# Altium schematic symbol library RF_Module.SchLib: 84 symbols (part 1 of 2)
Pins are listed as number, name and electrical type; pins without a type are passive.

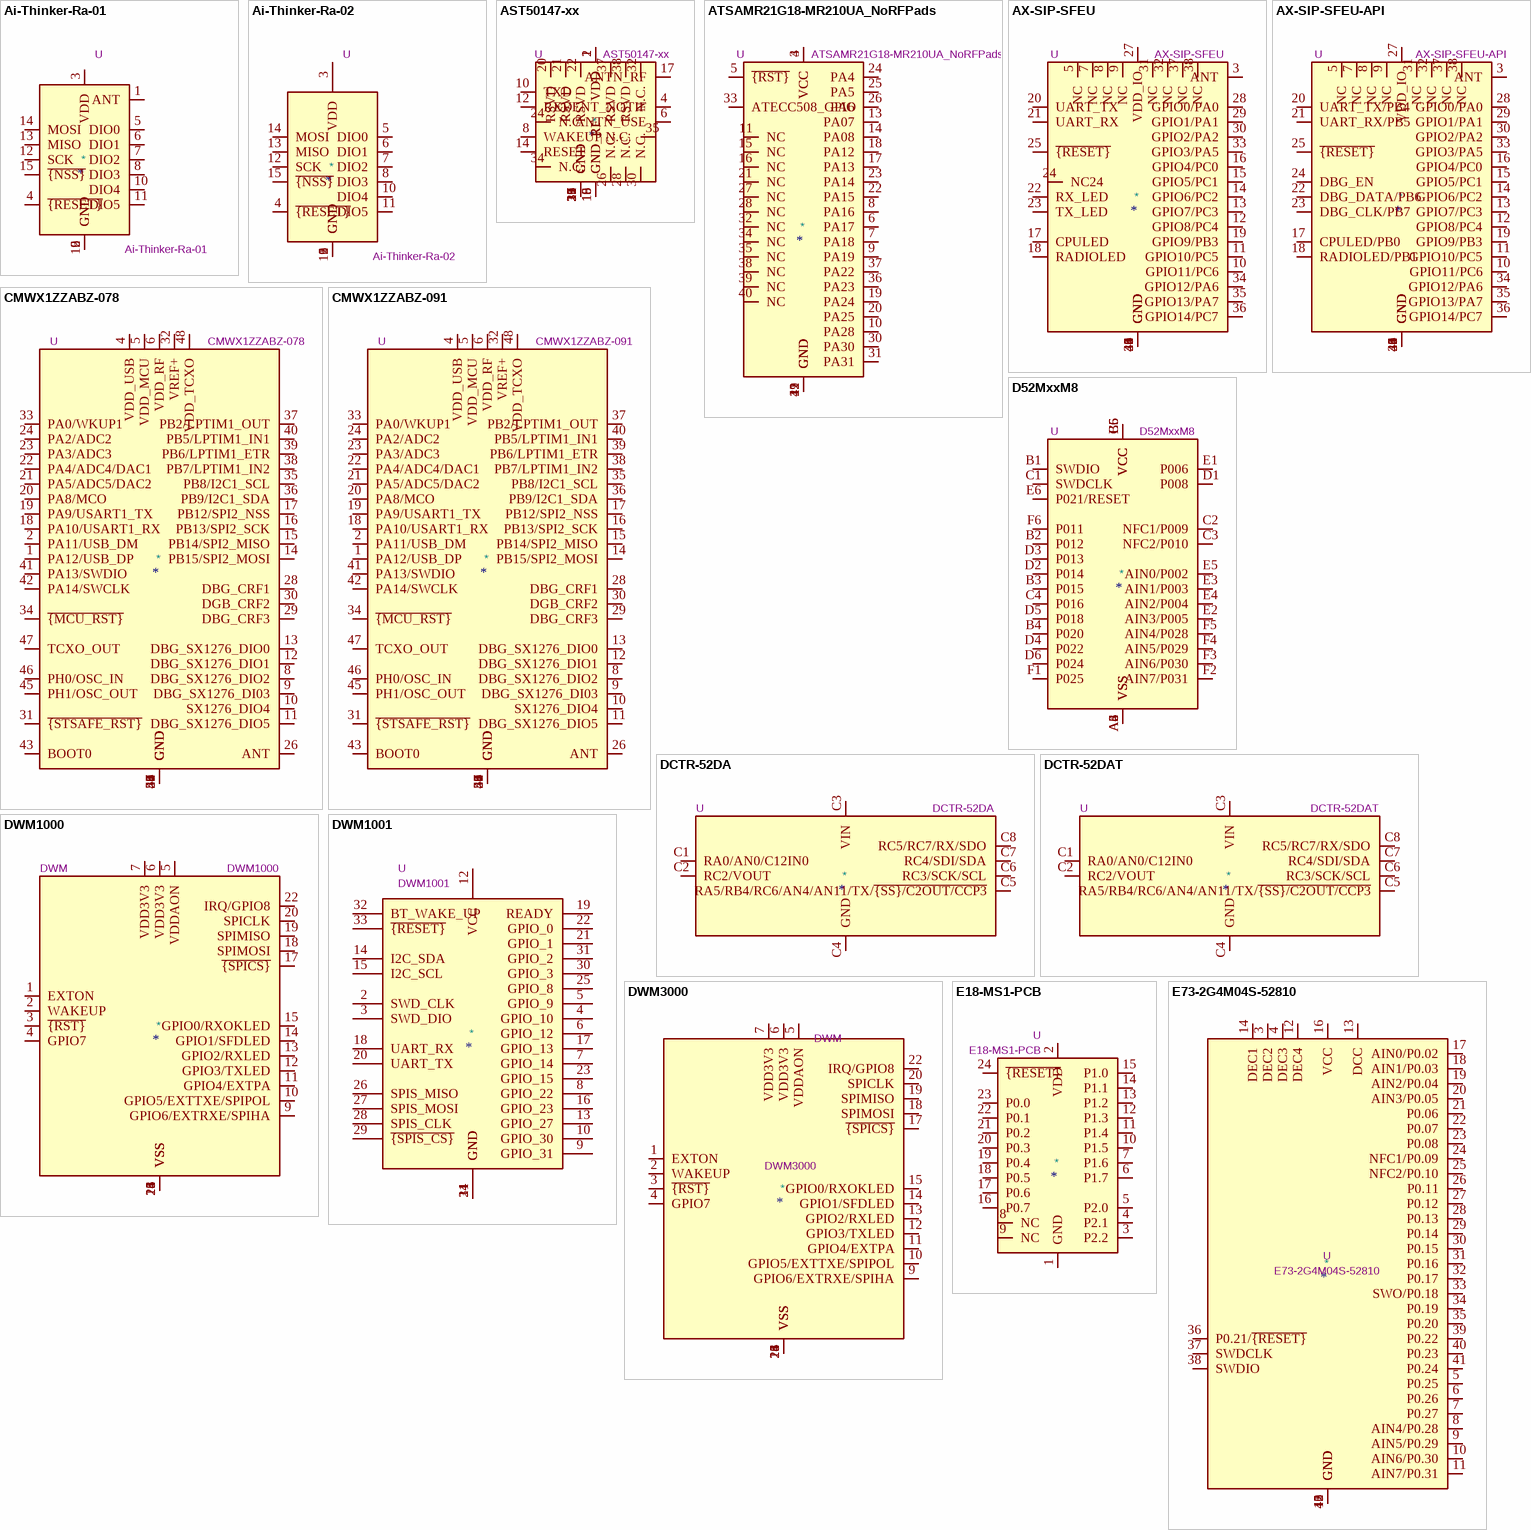
[diagram p0: symbols Ai-Thinker-Ra-01 to E73-2G4M04S-52810]

## Ai-Thinker-Ra-01
designator *  value Ai-Thinker-Ra-01  Reference: U
Ai-Thinker Ra-01 410-525 MHz LoRa Module, SPI interface, external antenna; ki_keywords: Ra-01 LoRa; ki_fp_filters: Ai?Thinker?Ra?01*; Footprint: RF_Module:Ai-Thinker-Ra-01-LoRa; Datasheet: http://wiki.ai-thinker.com/_media/lora/docs/c047ps01a1_ra-01_product_specification_v1.1.pdf; Description_: Ai-Thinker Ra-01 410-525 MHz LoRa Module, SPI interface, external antenna
pins: 1 ANT, 2 GND, 3 VDD, 4 ~{{RESET}}, 5 DIO0, 6 DIO1, 7 DIO2, 8 DIO3, 9 GND, 10 DIO4, 11 DIO5, 12 SCK, 13 MISO, 14 MOSI, 15 ~{{NSS}}, 16 GND

## Ai-Thinker-Ra-02
designator *  value Ai-Thinker-Ra-02  Reference: U
Ai-Thinker Ra-02 410-525 MHz LoRa Module, SPI interface, U.FL antenna connector; ki_keywords: Ra-02 LoRa; ki_fp_filters: Ai?Thinker?Ra?01*; Footprint: RF_Module:Ai-Thinker-Ra-01-LoRa; Datasheet: http://wiki.ai-thinker.com/_media/lora/docs/c048ps01a1_ra-02_product_specification_v1.1.pdf; Description_: Ai-Thinker Ra-02 410-525 MHz LoRa Module, SPI interface, U.FL antenna connector
pins: 1 GND, 2 GND, 3 VDD, 4 ~{{RESET}}, 5 DIO0, 6 DIO1, 7 DIO2, 8 DIO3, 9 GND, 10 DIO4, 11 DIO5, 12 SCK, 13 MISO, 14 MOSI, 15 ~{{NSS}}, 16 GND

## AST50147-xx
designator *  value AST50147-xx  Reference: U
L-band satellite communication Astronode S module; ki_keywords: RF module Astrocast radio Astronode; ki_fp_filters: Astrocast*AST50147*; Footprint: RF_Module:Astrocast_AST50147-00; Datasheet: https://docs.astrocast.com/dl/0532-DOC-M2M-ASTRO-Astronode_S-Datasheet.pdf; Description_: L-band satellite communication Astronode S module
pins: 1 VDD, 2 VDD, 3 GND, 4 EVENT_NOTIF, 5 GND, 6 ANTN_USE, 7 GND, 8 WAKEUP, 9 GND, 10 TXD, 11 GND, 12 RXD, 13 GND, 14 RESET, 15 GND_RF, 16 GND_RF, 17 ANTN_RF, 18 GND_RF, 19 GND_RF, 20 RSVD, 21 RSVD, 22 RSVD, 23 GND, 24 N.C., 25 GND, 26 N.C., 27 GND, 28 N.C., 29 GND, 30 N.C., 31 GND, 32 N.C., 33 GND, 34 N.C., 35 N.C., 36 GND, 37 RSVD, 38 RSVD

## ATSAMR21G18-MR210UA_NoRFPads
designator *  value ATSAMR21G18-MR210UA_NoRFPads  Reference: U
RF Module, ATSAMR21, Zigbee 802.15.4, external antenna, SMD; ki_keywords: Wireless Zigbee 802.15.4 ATSAMR21G18 AT45DB041E TECC508A; ki_fp_filters: Atmel*ATSAMR21G18*MR210UA*NoRFPads*; Footprint: RF_Module:Atmel_ATSAMR21G18-MR210UA_NoRFPads; Datasheet: http://ww1.microchip.com/downloads/en/devicedoc/atmel-42475-atsamr21g18-mr210ua_datasheet.pdf; Description_: RF Module, ATSAMR21, Zigbee 802.15.4, external antenna, SMD
pins: 1 GND, 2 GND, 3 VCC, 4 VCC, 5 ~{{RST}}, 6 PA17, 7 PA18, 8 PA16, 9 PA19, 10 PA28, 11 NC, 12 GND, 13 PA07, 14 PA08, 15 NC, 16 NC, 17 PA13, 18 PA12, 19 PA24, 20 PA25, 21 NC, 22 PA15, 23 PA14, 24 PA4, 25 PA5, 26 PA6, 27 NC, 28 NC, 29 GND, 30 PA30, 31 PA31, 32 NC, 33 ATECC508_GPIO, 34 NC, 35 NC, 36 PA23, 37 PA22, 38 NC, 39 NC, 40 NC, 41 GND, 42 GND

## AX-SIP-SFEU
designator *  value AX-SIP-SFEU  Reference: U
Ultra low power, Sigfox or custom, system in package transceiver, 868Mhz; ki_keywords: Sigfox SIP 868Mhz; ki_fp_filters: OnSemi*SIP*6EP*9x7mm*P0.65mm*; Footprint: Package_DFN_QFN:OnSemi_SIP-38-6EP-9x7mm_P0.65mm_EP1.2x1.2mm; Datasheet: https://www.onsemi.com/pub/Collateral/AX-SIP-SFEU-D.PDF; Description_: Ultra low power, Sigfox or custom, system in package transceiver, 868Mhz
pins: 1 GND, 2 GND, 3 ANT, 4 GND, 5 NC, 6 GND, 7 NC, 8 NC, 9 NC, 10 GPIO11/PC6, 11 GPIO10/PC5, 12 GPIO8/PC4, 13 GPIO7/PC3, 14 GPIO6/PC2, 15 GPIO5/PC1, 16 GPIO4/PC0, 17 CPULED, 18 RADIOLED, 19 GPIO9/PB3, 20 UART_TX, 21 UART_RX, 22 RX_LED, 23 TX_LED, 24 NC24, 25 ~{{RESET}}, 26 GND, 27 VDD_IO, 28 GPIO0/PA0, 29 GPIO1/PA1, 30 GPIO2/PA2, 31 NC, 32 NC, 33 GPIO3/PA5, 34 GPIO12/PA6, 35 GPIO13/PA7, 36 GPIO14/PC7, 37 NC, 38 NC, 39 GND, 40 GND, 41 GND, 42 GND, 43 GND, 44 GND

## AX-SIP-SFEU-API
designator *  value AX-SIP-SFEU-API  Reference: U
Ultra low power, Sigfox or custom, programmable system in package, 868Mhz; ki_keywords: Sigfox SIP 868Mhz; ki_fp_filters: OnSemi*SIP*6EP*9x7mm*P0.65mm*; Footprint: Package_DFN_QFN:OnSemi_SIP-38-6EP-9x7mm_P0.65mm_EP1.2x1.2mm; Datasheet: https://www.onsemi.com/pub/Collateral/AX-SIP-SFEU-D.PDF; Description_: Ultra low power, Sigfox or custom, programmable system in package, 868Mhz
pins: 1 GND, 2 GND, 3 ANT, 4 GND, 5 NC, 6 GND, 7 NC, 8 NC, 9 NC, 10 GPIO11/PC6, 11 GPIO10/PC5, 12 GPIO8/PC4, 13 GPIO7/PC3, 14 GPIO6/PC2, 15 GPIO5/PC1, 16 GPIO4/PC0, 17 CPULED/PB0, 18 RADIOLED/PB1, 19 GPIO9/PB3, 20 UART_TX/PB4, 21 UART_RX/PB5, 22 DBG_DATA/PB6, 23 DBG_CLK/PB7, 24 DBG_EN, 25 ~{{RESET}}, 26 GND, 27 VDD_IO, 28 GPIO0/PA0, 29 GPIO1/PA1, 30 GPIO2/PA2, 31 NC, 32 NC, 33 GPIO3/PA5, 34 GPIO12/PA6, 35 GPIO13/PA7, 36 GPIO14/PC7, 37 NC, 38 NC, 39 GND, 40 GND, 41 GND, 42 GND, 43 GND, 44 GND

## CMWX1ZZABZ-078
designator *  value CMWX1ZZABZ-078  Reference: U
LoRa/SigFox Module, STM32L082 MCU, Murata CMWX1ZZABZ; ki_keywords: iot lora sigfox; ki_fp_filters: CMWX1ZZABZ*; Footprint: RF_Module:CMWX1ZZABZ; Datasheet: https://wireless.murata.com/RFM/data/type_abz.pdf; Description_: LoRa/SigFox Module, STM32L082 MCU, Murata CMWX1ZZABZ
pins: 1 PA12/USB_DP, 2 PA11/USB_DM, 3 GND, 4 VDD_USB, 5 VDD_MCU, 6 VDD_RF, 7 GND, 8 DBG_SX1276_DIO2, 9 DBG_SX1276_DI03, 10 SX1276_DIO4, 11 DBG_SX1276_DIO5, 12 DBG_SX1276_DIO1, 13 DBG_SX1276_DIO0, 14 PB15/SPI2_MOSI, 15 PB14/SPI2_MISO, 16 PB13/SPI2_SCK, 17 PB12/SPI2_NSS, 18 PA10/USART1_RX, 19 PA9/USART1_TX, 20 PA8/MCO, 21 PA5/ADC5/DAC2, 22 PA4/ADC4/DAC1, 23 PA3/ADC3, 24 PA2/ADC2, 25 GND, 26 ANT, 27 GND, 28 DBG_CRF1, 29 DBG_CRF3, 30 DGB_CRF2, 31 ~{{STSAFE_RST}}, 32 VREF+, 33 PA0/WKUP1, 34 ~{{MCU_RST}}, 35 PB8/I2C1_SCL, 36 PB9/I2C1_SDA, 37 PB2/LPTIM1_OUT, 38 PB7/LPTIM1_IN2, 39 PB6/LPTIM1_ETR, 40 PB5/LPTIM1_IN1, 41 PA13/SWDIO, 42 PA14/SWCLK, 43 BOOT0, 44 GND, 45 PH1/OSC_OUT, 46 PH0/OSC_IN, 47 TCXO_OUT, 48 VDD_TCXO, 49 GND, 50 GND, 51 GND, 52 GND, 53 GND, 54 GND, 55 GND, 56 GND, 57 GND

## CMWX1ZZABZ-091
designator *  value CMWX1ZZABZ-091  Reference: U
LoRa/SigFox Module, STM32L072 MCU, Murata CMWX1ZZABZ; ki_keywords: iot lora sigfox; ki_fp_filters: CMWX1ZZABZ*; Footprint: RF_Module:CMWX1ZZABZ; Datasheet: https://wireless.murata.com/RFM/data/type_abz.pdf; Description_: LoRa/SigFox Module, STM32L072 MCU, Murata CMWX1ZZABZ
pins: 1 PA12/USB_DP, 2 PA11/USB_DM, 3 GND, 4 VDD_USB, 5 VDD_MCU, 6 VDD_RF, 7 GND, 8 DBG_SX1276_DIO2, 9 DBG_SX1276_DI03, 10 SX1276_DIO4, 11 DBG_SX1276_DIO5, 12 DBG_SX1276_DIO1, 13 DBG_SX1276_DIO0, 14 PB15/SPI2_MOSI, 15 PB14/SPI2_MISO, 16 PB13/SPI2_SCK, 17 PB12/SPI2_NSS, 18 PA10/USART1_RX, 19 PA9/USART1_TX, 20 PA8/MCO, 21 PA5/ADC5/DAC2, 22 PA4/ADC4/DAC1, 23 PA3/ADC3, 24 PA2/ADC2, 25 GND, 26 ANT, 27 GND, 28 DBG_CRF1, 29 DBG_CRF3, 30 DGB_CRF2, 31 ~{{STSAFE_RST}}, 32 VREF+, 33 PA0/WKUP1, 34 ~{{MCU_RST}}, 35 PB8/I2C1_SCL, 36 PB9/I2C1_SDA, 37 PB2/LPTIM1_OUT, 38 PB7/LPTIM1_IN2, 39 PB6/LPTIM1_ETR, 40 PB5/LPTIM1_IN1, 41 PA13/SWDIO, 42 PA14/SWCLK, 43 BOOT0, 44 GND, 45 PH1/OSC_OUT, 46 PH0/OSC_IN, 47 TCXO_OUT, 48 VDD_TCXO, 49 GND, 50 GND, 51 GND, 52 GND, 53 GND, 54 GND, 55 GND, 56 GND, 57 GND

## D52MxxM8
designator *  value D52MxxM8  Reference: U
D52M Module, nRF52832 SoC, ARM Cortex-M4F, 64kB RAM, 512kB Flash, 1.7-3.6V, M8-35; ki_keywords: RF Radio ANT Bluetooth BLE D52 nRF52 Garmin Canada Dynastream Nordic; ki_fp_filters: Garmin*M8*9.8x14.0mm*Layout6x6*P1.5mm*; Footprint: RF_Module:Garmin_M8-35_9.8x14.0mm_Layout6x6_P1.5mm; Datasheet: https://www.thisisant.com/assets/resources/D00001687_D52_Module_Datasheet.v.2.3_(Garmin).pdf; Description_: D52M Module, nRF52832 SoC, ARM Cortex-M4F, 64kB RAM, 512kB Flash, 1.7-3.6V, M8-35
pins: A2 VSS, A3 VSS, A4 VSS, A5 VSS, A6 VSS, B1 SWDIO, B2 P012, B3 P015, B4 P020, B5 VCC, B6 VCC, C1 SWDCLK, C2 NFC1/P009, C3 NFC2/P010, C4 P016, C5 VCC, C6 VCC, D1 P008, D2 P014, D3 P013, D4 P022, D5 P018, D6 P024, E1 P006, E2 AIN3/P005, E3 AIN1/P003, E4 AIN2/P004, E5 AIN0/P002, E6 P021/RESET, F1 P025, F2 AIN7/P031, F3 AIN6/P030, F4 AIN5/P029, F5 AIN4/P028, F6 P011

## DCTR-52DA
designator *  value DCTR-52DA  Reference: U
IQRF data controlled transceiver with PCB antenna, FSK modulation; ki_keywords: IQRF data controlled transceiver, PCB antenna, FSK modulation; ki_fp_filters: IQRF?TRx2DA?KON?SIM?01*; Footprint: RF_Module:IQRF_TRx2DA_KON-SIM-01; Datasheet: https://iqrf.org/weben/downloads.php?id=213; Description_: IQRF data controlled transceiver with PCB antenna, FSK modulation
pins: C1 RA0/AN0/C12IN0, C2 RC2/VOUT, C3 VIN, C4 GND, C5 RA5/RB4/RC6/AN4/AN11/TX/~{{SS}/C2OUT/CCP3}, C6 RC3/SCK/SCL, C7 RC4/SDI/SDA, C8 RC5/RC7/RX/SDO

## DCTR-52DAT
designator *  value DCTR-52DAT  Reference: U
IQRF data controlled transceiver with PCB antenna and thermometer, FSK modulation; ki_keywords: IQRF data controlled transceiver, PCB antenna, thermometer, FSK modulation; ki_fp_filters: IQRF?TRx2DA?KON?SIM?01*; Footprint: RF_Module:IQRF_TRx2DA_KON-SIM-01; Datasheet: https://iqrf.org/weben/downloads.php?id=213; Description_: IQRF data controlled transceiver with PCB antenna and thermometer, FSK modulation
pins: C1 RA0/AN0/C12IN0, C2 RC2/VOUT, C3 VIN, C4 GND, C5 RA5/RB4/RC6/AN4/AN11/TX/~{{SS}/C2OUT/CCP3}, C6 RC3/SCK/SCL, C7 RC4/SDI/SDA, C8 RC5/RC7/RX/SDO

## DWM1000
designator *  value DWM1000  Reference: DWM
Ultra wide band RF module With ranging location capabilities; ki_keywords: Decawave Qorvo UWB; ki_fp_filters: *DWM1000*; Footprint: RF_Module:DWM1000; Datasheet: https://www.decawave.com/sites/default/files/resources/dwm1000-datasheet-v1.3.pdf; Description_: Ultra wide band RF module With ranging location capabilities
pins: 1 EXTON, 2 WAKEUP, 3 ~{{RST}}, 4 GPIO7, 5 VDDAON, 6 VDD3V3, 7 VDD3V3, 8 VSS, 9 GPIO6/EXTRXE/SPIHA, 10 GPIO5/EXTTXE/SPIPOL, 11 GPIO4/EXTPA, 12 GPIO3/TXLED, 13 GPIO2/RXLED, 14 GPIO1/SFDLED, 15 GPIO0/RXOKLED, 16 VSS, 17 ~{{SPICS}}, 18 SPIMOSI, 19 SPIMISO, 20 SPICLK, 21 VSS, 22 IRQ/GPIO8, 23 VSS, 24 VSS

## DWM1001
designator *  value DWM1001  Reference: U
Ultra wide band RF module With ranging location capabilities, I2C, UART, SPI, +2.8V to +3.6V VCC; ki_keywords: DWM1000  DecaWave RF ranging UWB; ki_fp_filters: *DWM1001*; Footprint: RF_Module:DecaWave_DWM1001; Datasheet: https://www.decawave.com/sites/default/files/dwm1001_datasheet.pdf; Description_: Ultra wide band RF module With ranging location capabilities, I2C, UART, SPI, +2.8V to +3.6V VCC
pins: 1 GND, 2 SWD_CLK, 3 SWD_DIO, 4 GPIO_10, 5 GPIO_9, 6 GPIO_12, 7 GPIO_14, 8 GPIO_22, 9 GPIO_31, 10 GPIO_30, 11 GND, 12 VCC, 13 GPIO_27, 14 I2C_SDA, 15 I2C_SCL, 16 GPIO_23, 17 GPIO_13, 18 UART_RX, 19 READY, 20 UART_TX, 21 GPIO_1, 22 GPIO_0, 23 GPIO_15, 24 GND, 25 GPIO_8, 26 SPIS_MISO, 27 SPIS_MOSI, 28 SPIS_CLK, 29 ~{{SPIS_CS}}, 30 GPIO_3, 31 GPIO_2, 32 BT_WAKE_UP, 33 ~{{RESET}}, 34 GND

## DWM3000
designator *  value DWM3000  Reference: DWM
Ultra wide band RF module With ranging location capabilities; ki_keywords: DWM3000 Decawave Qorvo RF ranging UWB; ki_fp_filters: *DWM1000*; Footprint: RF_Module:DWM1000; Datasheet: https://www.qorvo.com/products/d/da008334; Description_: Ultra wide band RF module With ranging location capabilities
pins: 1 EXTON, 2 WAKEUP, 3 ~{{RST}}, 4 GPIO7, 5 VDDAON, 6 VDD3V3, 7 VDD3V3, 8 VSS, 9 GPIO6/EXTRXE/SPIHA, 10 GPIO5/EXTTXE/SPIPOL, 11 GPIO4/EXTPA, 12 GPIO3/TXLED, 13 GPIO2/RXLED, 14 GPIO1/SFDLED, 15 GPIO0/RXOKLED, 16 VSS, 17 ~{{SPICS}}, 18 SPIMOSI, 19 SPIMISO, 20 SPICLK, 21 VSS, 22 IRQ/GPIO8, 23 VSS, 24 VSS

## E18-MS1-PCB
designator *  value E18-MS1-PCB  Reference: U
Zigbee RF Module; ki_keywords: Zigbee, RF, 802.15.4; ki_fp_filters: E18-MS1-PCB*; Footprint: RF_Module:E18-MS1-PCB; Datasheet: http://www.cdebyte.com/en/downpdf.aspx?id=122; Description_: Zigbee RF Module
pins: 1 GND, 2 VDD, 3 P2.2, 4 P2.1, 5 P2.0, 6 P1.7, 7 P1.6, 8 NC, 9 NC, 10 P1.5, 11 P1.4, 12 P1.3, 13 P1.2, 14 P1.1, 15 P1.0, 16 P0.7, 17 P0.6, 18 P0.5, 19 P0.4, 20 P0.3, 21 P0.2, 22 P0.1, 23 P0.0, 24 ~{{RESET}}

## E73-2G4M04S-52810
designator *  value E73-2G4M04S-52810  Reference: U
nRF52810 BLE5 Module; ki_keywords: BLE5, BLE, nRF52810; ki_fp_filters: E73*2G4M04S*; Footprint: RF_Module:E73-2G4M04S; Datasheet: http://www.cdebyte.com/en/downpdf.aspx?id=243; Description_: nRF52810 BLE5 Module
pins: 0 GND, 1 GND, 2 GND, 3 DEC2, 4 DEC3, 5 P0.25, 6 P0.26, 7 P0.27, 8 AIN4/P0.28, 9 AIN5/P0.29, 10 AIN6/P0.30, 11 AIN7/P0.31, 12 DEC4, 13 DCC, 14 DEC1, 15 GND, 16 VCC, 17 AIN0/P0.02, 18 AIN1/P0.03, 19 AIN2/P0.04, 20 AIN3/P0.05, 21 P0.06, 22 P0.07, 23 P0.08, 24 NFC1/P0.09, 25 NFC2/P0.10, 26 P0.11, 27 P0.12, 28 P0.13, 29 P0.14, 30 P0.15, 31 P0.16, 32 P0.17, 33 SWO/P0.18, 34 P0.19, 35 P0.20, 36 P0.21/~{{RESET}}, 37 SWDCLK, 38 SWDIO, 39 P0.22, 40 P0.23, 41 P0.24, 42 GND, 43 GND

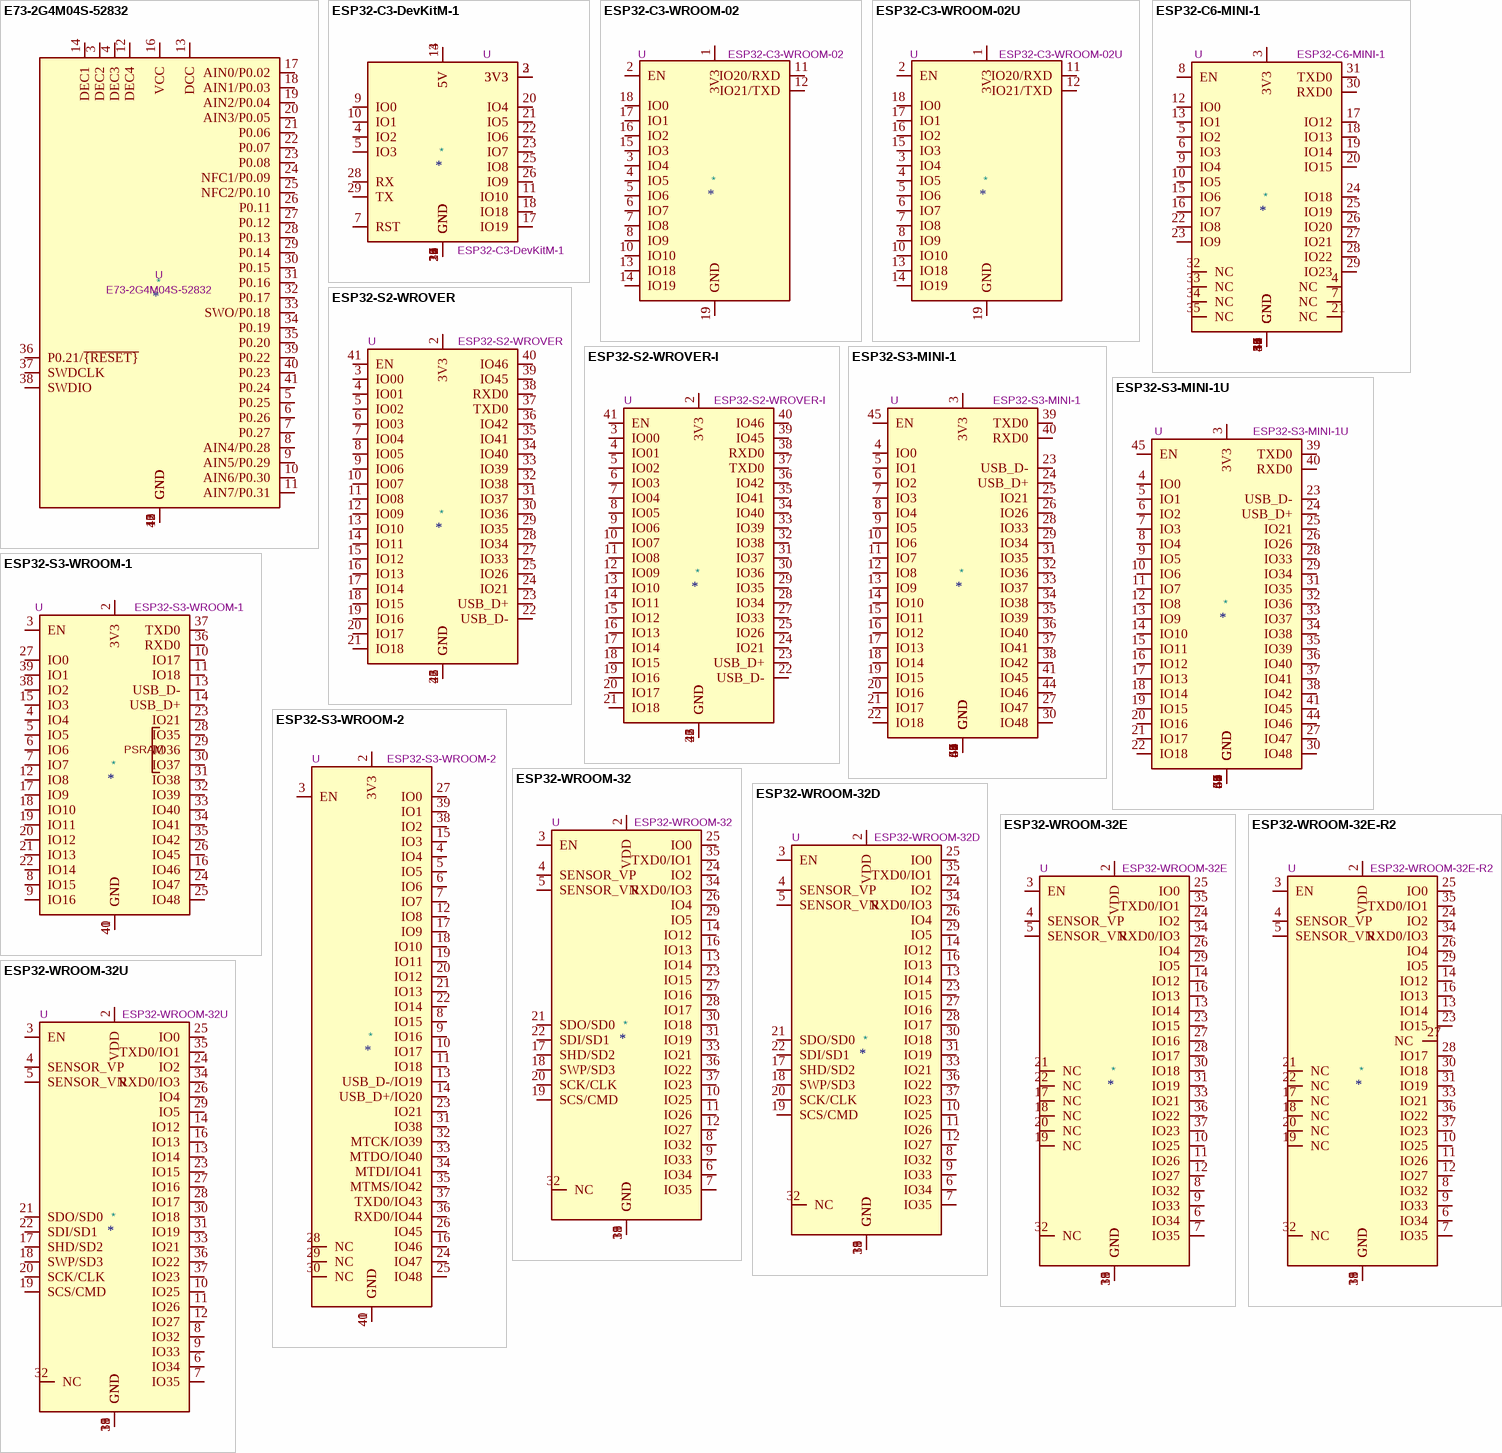
[diagram p1: symbols E73-2G4M04S-52832 to ESP32-WROOM-32U]

## E73-2G4M04S-52832
designator *  value E73-2G4M04S-52832  Reference: U
nRF52832 BLE5 Module; ki_keywords: BLE5, BLE, nRF52832; ki_fp_filters: E73*2G4M04S*; Footprint: RF_Module:E73-2G4M04S; Datasheet: http://www.cdebyte.com/en/downpdf.aspx?id=243; Description_: nRF52832 BLE5 Module
pins: 0 GND, 1 GND, 2 GND, 3 DEC2, 4 DEC3, 5 P0.25, 6 P0.26, 7 P0.27, 8 AIN4/P0.28, 9 AIN5/P0.29, 10 AIN6/P0.30, 11 AIN7/P0.31, 12 DEC4, 13 DCC, 14 DEC1, 15 GND, 16 VCC, 17 AIN0/P0.02, 18 AIN1/P0.03, 19 AIN2/P0.04, 20 AIN3/P0.05, 21 P0.06, 22 P0.07, 23 P0.08, 24 NFC1/P0.09, 25 NFC2/P0.10, 26 P0.11, 27 P0.12, 28 P0.13, 29 P0.14, 30 P0.15, 31 P0.16, 32 P0.17, 33 SWO/P0.18, 34 P0.19, 35 P0.20, 36 P0.21/~{{RESET}}, 37 SWDCLK, 38 SWDIO, 39 P0.22, 40 P0.23, 41 P0.24, 42 GND, 43 GND

## ESP32-C3-DevKitM-1
designator *  value ESP32-C3-DevKitM-1  Reference: U
Development board featuring ESP32-C3-MINI-1 module; ki_keywords: riscv wifi bluetooth ble; ki_fp_filters: *ESP32?C3?DevKitM?1*; Footprint: RF_Module:ESP32-C3-DevKitM-1; Datasheet: https://docs.espressif.com/projects/esp-idf/en/latest/esp32c3/hw-reference/esp32c3/user-guide-devkitm-1.html; Description_: Development board featuring ESP32-C3-MINI-1 module
pins: 1 GND, 2 3V3, 3 3V3, 4 IO2, 5 IO3, 6 GND, 7 RST, 8 GND, 9 IO0, 10 IO1, 11 IO10, 12 GND, 13 5V, 14 5V, 15 GND, 16 GND, 17 IO19, 18 IO18, 19 GND, 20 IO4, 21 IO5, 22 IO6, 23 IO7, 24 GND, 25 IO8, 26 IO9, 27 GND, 28 RX, 29 TX, 30 GND

## ESP32-C3-WROOM-02
designator *  value ESP32-C3-WROOM-02  Reference: U
802.11 b/g/n Wi­Fi and Bluetooth 5 module, ESP32­C3 SoC, RISC­V microprocessor, On-board antenna; ki_keywords: esp32 espressif WiFi Bluetooth LE; ki_fp_filters: ESP32?C3*WROOM?02*; Footprint: RF_Module:ESP32-C3-WROOM-02; Datasheet: https://www.espressif.com/sites/default/files/documentation/esp32-c3-wroom-02_datasheet_en.pdf; Description_: 802.11 b/g/n Wi­Fi and Bluetooth 5 module, ESP32­C3 SoC, RISC­V microprocessor, On-board antenna
pins: 1 3V3, 2 EN, 3 IO4, 4 IO5, 5 IO6, 6 IO7, 7 IO8, 8 IO9, 9 GND, 10 IO10, 11 IO20/RXD, 12 IO21/TXD, 13 IO18, 14 IO19, 15 IO3, 16 IO2, 17 IO1, 18 IO0, 19 GND

## ESP32-C3-WROOM-02U
designator *  value ESP32-C3-WROOM-02U  Reference: U
802.11 b/g/n Wi­Fi and Bluetooth 5 module, ESP32­C3 SoC, RISC­V microprocessor, On-board antenna; ki_keywords: esp32 espressif WiFi Bluetooth LE; ki_fp_filters: ESP32?C3*WROOM?02U*; Footprint: RF_Module:ESP32-C3-WROOM-02U; Datasheet: https://www.espressif.com/sites/default/files/documentation/esp32-c3-wroom-02_datasheet_en.pdf; Description_: 802.11 b/g/n Wi­Fi and Bluetooth 5 module, ESP32­C3 SoC, RISC­V microprocessor, On-board antenna
pins: 1 3V3, 2 EN, 3 IO4, 4 IO5, 5 IO6, 6 IO7, 7 IO8, 8 IO9, 9 GND, 10 IO10, 11 IO20/RXD, 12 IO21/TXD, 13 IO18, 14 IO19, 15 IO3, 16 IO2, 17 IO1, 18 IO0, 19 GND

## ESP32-C6-MINI-1
designator *  value ESP32-C6-MINI-1  Reference: U
RF Module, ESP32-C6 SoC, Wi-Fi 802.11b/g/n/ax, Bluetooth, BLE, Zigbee, Thread, 32-bit, 3.3V, SMD, onboard antenna; ki_keywords: Radio BT ESP Espressif; ki_fp_filters: ESP32?C6?MINI?1*; Footprint: RF_Module:ESP32-C6-MINI-1; Datasheet: https://www.espressif.com/sites/default/files/documentation/esp32-c6-mini-1_mini-1u_datasheet_en.pdf; Description_: RF Module, ESP32-C6 SoC, Wi-Fi 802.11b/g/n/ax, Bluetooth, BLE, Zigbee, Thread, 32-bit, 3.3V, SMD, onboard antenna
pins: 1 GND, 2 GND, 3 3V3, 4 NC, 5 IO2, 6 IO3, 7 NC, 8 EN, 9 IO4, 10 IO5, 11 GND, 12 IO0, 13 IO1, 14 GND, 15 IO6, 16 IO7, 17 IO12, 18 IO13, 19 IO14, 20 IO15, 21 NC, 22 IO8, 23 IO9, 24 IO18, 25 IO19, 26 IO20, 27 IO21, 28 IO22, 29 IO23, 30 RXD0, 31 TXD0, 32 NC, 33 NC, 34 NC, 35 NC, 36 GND, 37 GND, 38 GND, 39 GND, 40 GND, 41 GND, 42 GND, 43 GND, 44 GND, 45 GND, 46 GND, 47 GND, 48 GND, 49 GND, 50 GND, 51 GND, 52 GND, 53 GND

## ESP32-S2-WROVER
designator *  value ESP32-S2-WROVER  Reference: U
RF Module, ESP32-D0WDQ6 SoC, Wi-Fi 802.11b/g/n, 32-bit, 2.7-3.6V, onboard antenna, SMD; ki_keywords: RF Radio ESP ESP32 Espressif onboard PCB antenna; ki_fp_filters: ESP32?S2?WROVER*; Footprint: RF_Module:ESP32-S2-WROVER; Datasheet: https://www.espressif.com/sites/default/files/documentation/esp32-s2-wroom_esp32-s2-wroom-i_datasheet_en.pdf; Description_: RF Module, ESP32-D0WDQ6 SoC, Wi-Fi 802.11b/g/n, 32-bit, 2.7-3.6V, onboard antenna, SMD
pins: 1 GND, 2 3V3, 3 IO00, 4 IO01, 5 IO02, 6 IO03, 7 IO04, 8 IO05, 9 IO06, 10 IO07, 11 IO08, 12 IO09, 13 IO10, 14 IO11, 15 IO12, 16 IO13, 17 IO14, 18 IO15, 19 IO16, 20 IO17, 21 IO18, 22 USB_D-, 23 USB_D+, 24 IO21, 25 IO26, 26 GND, 27 IO33, 28 IO34, 29 IO35, 30 IO36, 31 IO37, 32 IO38, 33 IO39, 34 IO40, 35 IO41, 36 IO42, 37 TXD0, 38 RXD0, 39 IO45, 40 IO46, 41 EN, 42 GND, 43 GND

## ESP32-S2-WROVER-I
designator *  value ESP32-S2-WROVER-I  Reference: U
RF Module, ESP32-D0WDQ6 SoC, Wi-Fi 802.11b/g/n, 32-bit, 2.7-3.6V, onboard antenna, SMD; ki_keywords: RF Radio ESP ESP32 Espressif onboard PCB antenna; ki_fp_filters: ESP32?S2?WROVER*; Footprint: RF_Module:ESP32-S2-WROVER; Datasheet: https://www.espressif.com/sites/default/files/documentation/esp32-s2-wroom_esp32-s2-wroom-i_datasheet_en.pdf; Description_: RF Module, ESP32-D0WDQ6 SoC, Wi-Fi 802.11b/g/n, 32-bit, 2.7-3.6V, onboard antenna, SMD
pins: 1 GND, 2 3V3, 3 IO00, 4 IO01, 5 IO02, 6 IO03, 7 IO04, 8 IO05, 9 IO06, 10 IO07, 11 IO08, 12 IO09, 13 IO10, 14 IO11, 15 IO12, 16 IO13, 17 IO14, 18 IO15, 19 IO16, 20 IO17, 21 IO18, 22 USB_D-, 23 USB_D+, 24 IO21, 25 IO26, 26 GND, 27 IO33, 28 IO34, 29 IO35, 30 IO36, 31 IO37, 32 IO38, 33 IO39, 34 IO40, 35 IO41, 36 IO42, 37 TXD0, 38 RXD0, 39 IO45, 40 IO46, 41 EN, 42 GND, 43 GND

## ESP32-S3-MINI-1
designator *  value ESP32-S3-MINI-1  Reference: U
RF Module, ESP32-S3 SoC, Wi-Fi 802.11b/g/n, Bluetooth, BLE, 32-bit, 3.3V, SMD, onboard antenna; ki_keywords: RF Radio BT ESP ESP32-S3 Espressif; ki_fp_filters: ESP32?S*MINI?1; Footprint: RF_Module:ESP32-S2-MINI-1; Datasheet: https://www.espressif.com/sites/default/files/documentation/esp32-s3-mini-1_mini-1u_datasheet_en.pdf; Description_: RF Module, ESP32-S3 SoC, Wi-Fi 802.11b/g/n, Bluetooth, BLE, 32-bit, 3.3V, SMD, onboard antenna
pins: 1 GND, 2 GND, 3 3V3, 4 IO0, 5 IO1, 6 IO2, 7 IO3, 8 IO4, 9 IO5, 10 IO6, 11 IO7, 12 IO8, 13 IO9, 14 IO10, 15 IO11, 16 IO12, 17 IO13, 18 IO14, 19 IO15, 20 IO16, 21 IO17, 22 IO18, 23 USB_D-, 24 USB_D+, 25 IO21, 26 IO26, 27 IO47, 28 IO33, 29 IO34, 30 IO48, 31 IO35, 32 IO36, 33 IO37, 34 IO38, 35 IO39, 36 IO40, 37 IO41, 38 IO42, 39 TXD0, 40 RXD0, 41 IO45, 42 GND, 43 GND, 44 IO46, 45 EN, 46 GND, 47 GND, 48 GND, 49 GND, 50 GND, 51 GND, 52 GND, 53 GND, 54 GND, 55 GND, 56 GND, 57 GND, 58 GND, 59 GND, 60 GND, 61 GND, 62 GND, 63 GND, 64 GND, 65 GND

## ESP32-S3-MINI-1U
designator *  value ESP32-S3-MINI-1U  Reference: U
RF Module, ESP32-S3 SoC, Wi-Fi 802.11b/g/n, Bluetooth, BLE, 32-bit, 3.3V, SMD, external antenna; ki_keywords: RF Radio BT ESP ESP32-S3 Espressif; ki_fp_filters: ESP32?S*MINI?1U; Footprint: RF_Module:ESP32-S2-MINI-1U; Datasheet: https://www.espressif.com/sites/default/files/documentation/esp32-s3-mini-1_mini-1u_datasheet_en.pdf; Description_: RF Module, ESP32-S3 SoC, Wi-Fi 802.11b/g/n, Bluetooth, BLE, 32-bit, 3.3V, SMD, external antenna
pins: 1 GND, 2 GND, 3 3V3, 4 IO0, 5 IO1, 6 IO2, 7 IO3, 8 IO4, 9 IO5, 10 IO6, 11 IO7, 12 IO8, 13 IO9, 14 IO10, 15 IO11, 16 IO12, 17 IO13, 18 IO14, 19 IO15, 20 IO16, 21 IO17, 22 IO18, 23 USB_D-, 24 USB_D+, 25 IO21, 26 IO26, 27 IO47, 28 IO33, 29 IO34, 30 IO48, 31 IO35, 32 IO36, 33 IO37, 34 IO38, 35 IO39, 36 IO40, 37 IO41, 38 IO42, 39 TXD0, 40 RXD0, 41 IO45, 42 GND, 43 GND, 44 IO46, 45 EN, 46 GND, 47 GND, 48 GND, 49 GND, 50 GND, 51 GND, 52 GND, 53 GND, 54 GND, 55 GND, 56 GND, 57 GND, 58 GND, 59 GND, 60 GND, 61 GND, 62 GND, 63 GND, 64 GND, 65 GND

## ESP32-S3-WROOM-1
designator *  value ESP32-S3-WROOM-1  Reference: U
RF Module, ESP32-S3 SoC, Wi-Fi 802.11b/g/n, Bluetooth, BLE, 32-bit, 3.3V, onboard antenna, SMD; ki_keywords: RF Radio BT ESP ESP32-S3 Espressif onboard PCB antenna; ki_fp_filters: ESP32?S3?WROOM?1*; Footprint: RF_Module:ESP32-S3-WROOM-1; Datasheet: https://www.espressif.com/sites/default/files/documentation/esp32-s3-wroom-1_wroom-1u_datasheet_en.pdf; Description_: RF Module, ESP32-S3 SoC, Wi-Fi 802.11b/g/n, Bluetooth, BLE, 32-bit, 3.3V, onboard antenna, SMD
pins: 1 GND, 2 3V3, 3 EN, 4 IO4, 5 IO5, 6 IO6, 7 IO7, 8 IO15, 9 IO16, 10 IO17, 11 IO18, 12 IO8, 13 USB_D-, 14 USB_D+, 15 IO3, 16 IO46, 17 IO9, 18 IO10, 19 IO11, 20 IO12, 21 IO13, 22 IO14, 23 IO21, 24 IO47, 25 IO48, 26 IO45, 27 IO0, 28 IO35, 29 IO36, 30 IO37, 31 IO38, 32 IO39, 33 IO40, 34 IO41, 35 IO42, 36 RXD0, 37 TXD0, 38 IO2, 39 IO1, 40 GND, 41 GND
text: PSRAM

## ESP32-S3-WROOM-2
designator *  value ESP32-S3-WROOM-2  Reference: U
RF Module, 2.4 GHz, Wi­-Fi, Bluetooth, BLE, ESP32­-S3R8V; ki_keywords: Bluetooth WiFi Wi-Fi ESP WROOM; ki_fp_filters: ESP32?S3?WROOM?2*; Footprint: RF_Module:ESP32-S3-WROOM-2; Datasheet: https://www.espressif.com/sites/default/files/documentation/esp32-s3-wroom-2_datasheet_en.pdf; Description_: RF Module, 2.4 GHz, Wi­-Fi, Bluetooth, BLE, ESP32­-S3R8V
pins: 1 GND, 2 3V3, 3 EN, 4 IO4, 5 IO5, 6 IO6, 7 IO7, 8 IO15, 9 IO16, 10 IO17, 11 IO18, 12 IO8, 13 USB_D-/IO19, 14 USB_D+/IO20, 15 IO3, 16 IO46, 17 IO9, 18 IO10, 19 IO11, 20 IO12, 21 IO13, 22 IO14, 23 IO21, 24 IO47, 25 IO48, 26 IO45, 27 IO0, 28 NC, 29 NC, 30 NC, 31 IO38, 32 MTCK/IO39, 33 MTDO/IO40, 34 MTDI/IO41, 35 MTMS/IO42, 36 RXD0/IO44, 37 TXD0/IO43, 38 IO2, 39 IO1, 40 GND, 41 GND

## ESP32-WROOM-32
designator *  value ESP32-WROOM-32  Reference: U
RF Module, ESP32-D0WDQ6 SoC, Wi-Fi 802.11b/g/n, Bluetooth, BLE, 32-bit, 2.7-3.6V, onboard antenna, SMD; ki_keywords: RF Radio BT ESP ESP32 Espressif onboard PCB antenna; ki_fp_filters: ESP32?WROOM?32*; Footprint: RF_Module:ESP32-WROOM-32; Datasheet: https://www.espressif.com/sites/default/files/documentation/esp32-wroom-32_datasheet_en.pdf; Description_: RF Module, ESP32-D0WDQ6 SoC, Wi-Fi 802.11b/g/n, Bluetooth, BLE, 32-bit, 2.7-3.6V, onboard antenna, SMD
pins: 1 GND, 2 VDD, 3 EN, 4 SENSOR_VP, 5 SENSOR_VN, 6 IO34, 7 IO35, 8 IO32, 9 IO33, 10 IO25, 11 IO26, 12 IO27, 13 IO14, 14 IO12, 15 GND, 16 IO13, 17 SHD/SD2, 18 SWP/SD3, 19 SCS/CMD, 20 SCK/CLK, 21 SDO/SD0, 22 SDI/SD1, 23 IO15, 24 IO2, 25 IO0, 26 IO4, 27 IO16, 28 IO17, 29 IO5, 30 IO18, 31 IO19, 32 NC, 33 IO21, 34 RXD0/IO3, 35 TXD0/IO1, 36 IO22, 37 IO23, 38 GND, 39 GND

## ESP32-WROOM-32D
designator *  value ESP32-WROOM-32D  Reference: U
RF Module, ESP32-D0WD SoC, Wi-Fi 802.11b/g/n, Bluetooth, BLE, 32-bit, 2.7-3.6V, onboard antenna, SMD; ki_keywords: RF Radio BT ESP ESP32 Espressif onboard PCB antenna; ki_fp_filters: ESP32?WROOM?32D*; Footprint: RF_Module:ESP32-WROOM-32D; Datasheet: https://www.espressif.com/sites/default/files/documentation/esp32-wroom-32d_esp32-wroom-32u_datasheet_en.pdf; Description_: RF Module, ESP32-D0WD SoC, Wi-Fi 802.11b/g/n, Bluetooth, BLE, 32-bit, 2.7-3.6V, onboard antenna, SMD
pins: 1 GND, 2 VDD, 3 EN, 4 SENSOR_VP, 5 SENSOR_VN, 6 IO34, 7 IO35, 8 IO32, 9 IO33, 10 IO25, 11 IO26, 12 IO27, 13 IO14, 14 IO12, 15 GND, 16 IO13, 17 SHD/SD2, 18 SWP/SD3, 19 SCS/CMD, 20 SCK/CLK, 21 SDO/SD0, 22 SDI/SD1, 23 IO15, 24 IO2, 25 IO0, 26 IO4, 27 IO16, 28 IO17, 29 IO5, 30 IO18, 31 IO19, 32 NC, 33 IO21, 34 RXD0/IO3, 35 TXD0/IO1, 36 IO22, 37 IO23, 38 GND, 39 GND

## ESP32-WROOM-32E
designator *  value ESP32-WROOM-32E  Reference: U
RF Module, ESP32-D0WD-V3 SoC, without PSRAM, Wi-Fi 802.11b/g/n, Bluetooth, BLE, 32-bit, 2.7-3.6V, onboard antenna, SMD; ki_keywords: RF Radio BT ESP ESP32 Espressif onboard PCB antenna; ki_fp_filters: ESP32?WROOM?32D*; Footprint: RF_Module:ESP32-WROOM-32D; Datasheet: https://www.espressif.com/sites/default/files/documentation/esp32-wroom-32e_esp32-wroom-32ue_datasheet_en.pdf; Description_: RF Module, ESP32-D0WD-V3 SoC, without PSRAM, Wi-Fi 802.11b/g/n, Bluetooth, BLE, 32-bit, 2.7-3.6V, onboard antenna, SMD
pins: 1 GND, 2 VDD, 3 EN, 4 SENSOR_VP, 5 SENSOR_VN, 6 IO34, 7 IO35, 8 IO32, 9 IO33, 10 IO25, 11 IO26, 12 IO27, 13 IO14, 14 IO12, 15 GND, 16 IO13, 17 NC, 18 NC, 19 NC, 20 NC, 21 NC, 22 NC, 23 IO15, 24 IO2, 25 IO0, 26 IO4, 27 IO16, 28 IO17, 29 IO5, 30 IO18, 31 IO19, 32 NC, 33 IO21, 34 RXD0/IO3, 35 TXD0/IO1, 36 IO22, 37 IO23, 38 GND, 39 GND

## ESP32-WROOM-32E-R2
designator *  value ESP32-WROOM-32E-R2  Reference: U
RF Module, ESP32-D0WDR2-V3 SoC, with 2MB PSRAM, Wi-Fi 802.11b/g/n, Bluetooth, BLE, 32-bit, 2.7-3.6V, onboard antenna, SMD; ki_keywords: RF Radio BT ESP ESP32 Espressif onboard PCB antenna; ki_fp_filters: ESP32?WROOM?32D*; Footprint: RF_Module:ESP32-WROOM-32D; Datasheet: https://www.espressif.com/sites/default/files/documentation/esp32-wroom-32e_esp32-wroom-32ue_datasheet_en.pdf; Description_: RF Module, ESP32-D0WDR2-V3 SoC, with 2MB PSRAM, Wi-Fi 802.11b/g/n, Bluetooth, BLE, 32-bit, 2.7-3.6V, onboard antenna, SMD
pins: 1 GND, 2 VDD, 3 EN, 4 SENSOR_VP, 5 SENSOR_VN, 6 IO34, 7 IO35, 8 IO32, 9 IO33, 10 IO25, 11 IO26, 12 IO27, 13 IO14, 14 IO12, 15 GND, 16 IO13, 17 NC, 18 NC, 19 NC, 20 NC, 21 NC, 22 NC, 23 IO15, 24 IO2, 25 IO0, 26 IO4, 27 NC, 28 IO17, 29 IO5, 30 IO18, 31 IO19, 32 NC, 33 IO21, 34 RXD0/IO3, 35 TXD0/IO1, 36 IO22, 37 IO23, 38 GND, 39 GND

## ESP32-WROOM-32U
designator *  value ESP32-WROOM-32U  Reference: U
RF Module, ESP32-D0WD SoC, Wi-Fi 802.11b/g/n, Bluetooth, BLE, 32-bit, 2.7-3.6V, external antenna, SMD; ki_keywords: RF Radio BT ESP ESP32 Espressif external U.FL antenna; ki_fp_filters: ESP32?WROOM?32U*; Footprint: RF_Module:ESP32-WROOM-32U; Datasheet: https://www.espressif.com/sites/default/files/documentation/esp32-wroom-32d_esp32-wroom-32u_datasheet_en.pdf; Description_: RF Module, ESP32-D0WD SoC, Wi-Fi 802.11b/g/n, Bluetooth, BLE, 32-bit, 2.7-3.6V, external antenna, SMD
pins: 1 GND, 2 VDD, 3 EN, 4 SENSOR_VP, 5 SENSOR_VN, 6 IO34, 7 IO35, 8 IO32, 9 IO33, 10 IO25, 11 IO26, 12 IO27, 13 IO14, 14 IO12, 15 GND, 16 IO13, 17 SHD/SD2, 18 SWP/SD3, 19 SCS/CMD, 20 SCK/CLK, 21 SDO/SD0, 22 SDI/SD1, 23 IO15, 24 IO2, 25 IO0, 26 IO4, 27 IO16, 28 IO17, 29 IO5, 30 IO18, 31 IO19, 32 NC, 33 IO21, 34 RXD0/IO3, 35 TXD0/IO1, 36 IO22, 37 IO23, 38 GND, 39 GND

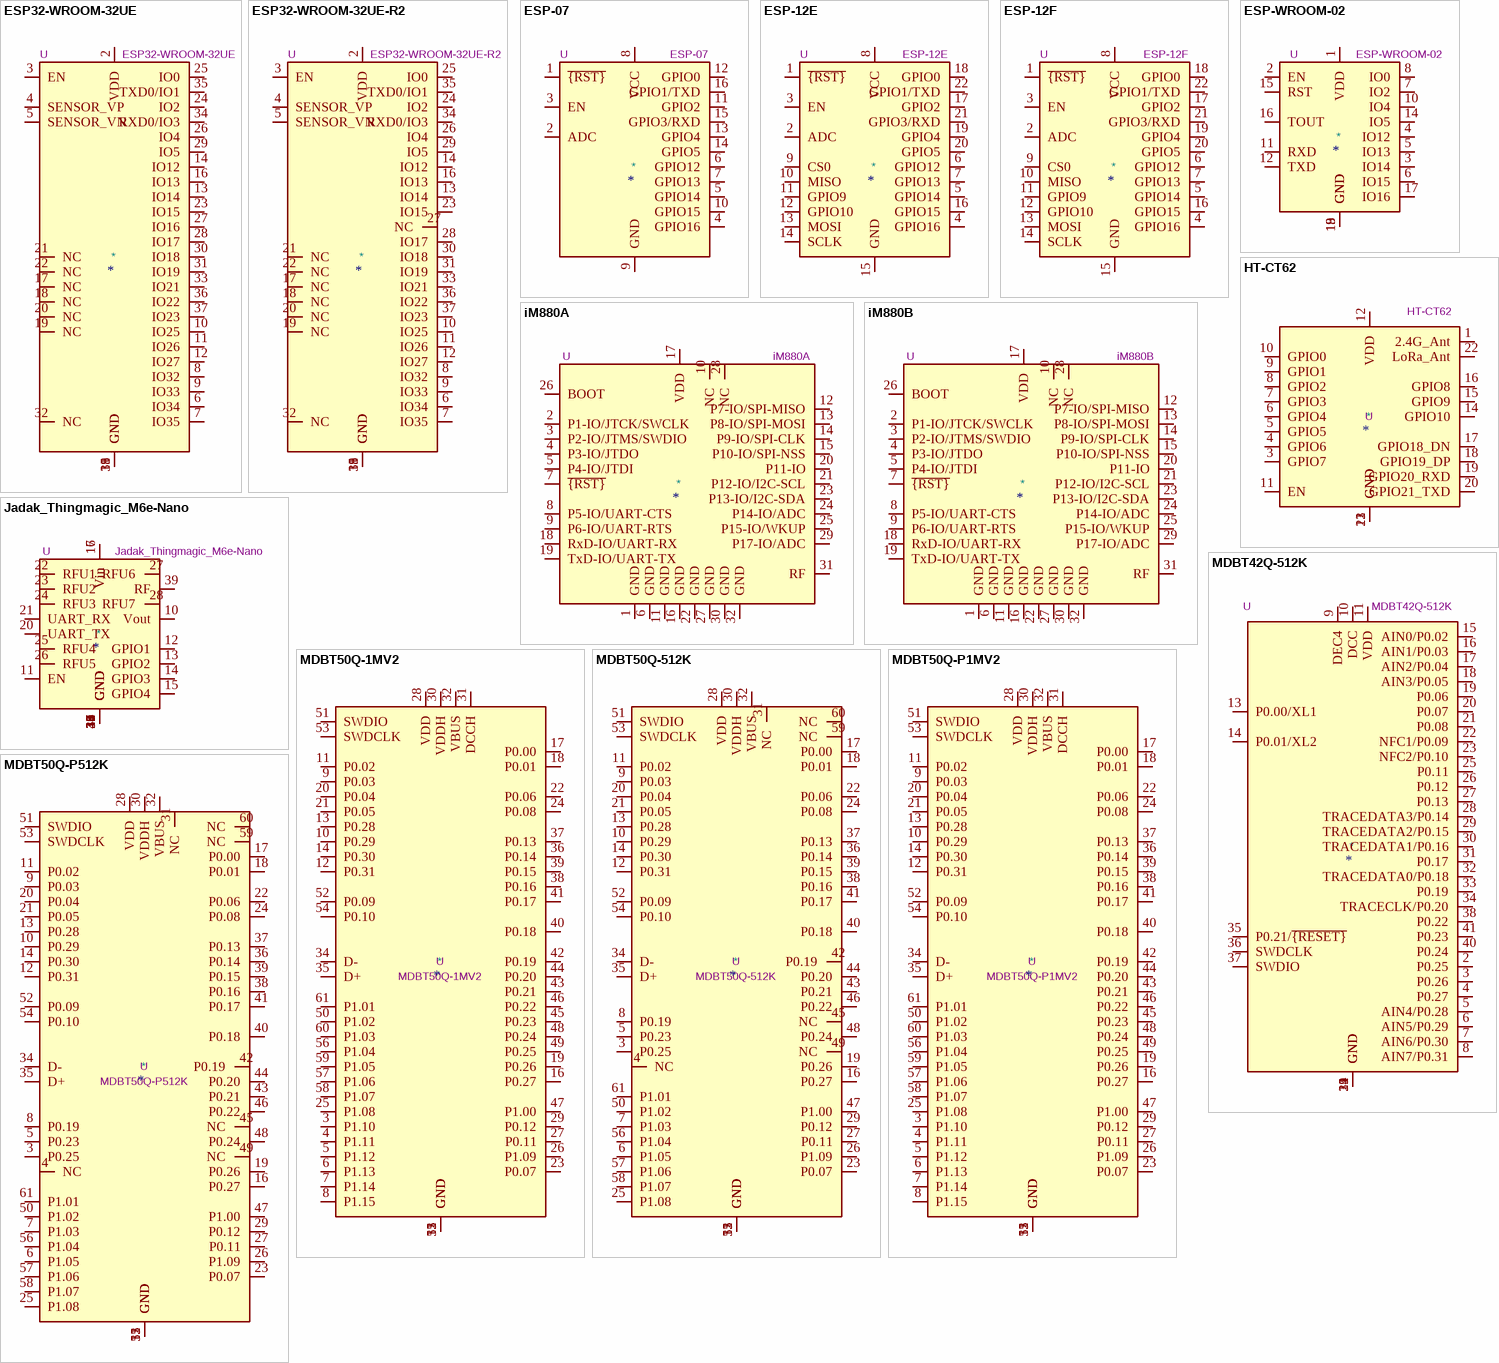
[diagram p2: symbols ESP32-WROOM-32UE to MDBT50Q-P512K]

## ESP32-WROOM-32UE
designator *  value ESP32-WROOM-32UE  Reference: U
RF Module, ESP32-D0WD-V3 SoC, without PSRAM, Wi-Fi 802.11b/g/n, Bluetooth, BLE, 32-bit, 2.7-3.6V, external antenna, SMD; ki_keywords: RF Radio BT ESP ESP32 Espressif external U.FL antenna; ki_fp_filters: ESP32?WROOM?32UE*; Footprint: RF_Module:ESP32-WROOM-32UE; Datasheet: https://www.espressif.com/sites/default/files/documentation/esp32-wroom-32e_esp32-wroom-32ue_datasheet_en.pdf; Description_: RF Module, ESP32-D0WD-V3 SoC, without PSRAM, Wi-Fi 802.11b/g/n, Bluetooth, BLE, 32-bit, 2.7-3.6V, external antenna, SMD
pins: 1 GND, 2 VDD, 3 EN, 4 SENSOR_VP, 5 SENSOR_VN, 6 IO34, 7 IO35, 8 IO32, 9 IO33, 10 IO25, 11 IO26, 12 IO27, 13 IO14, 14 IO12, 15 GND, 16 IO13, 17 NC, 18 NC, 19 NC, 20 NC, 21 NC, 22 NC, 23 IO15, 24 IO2, 25 IO0, 26 IO4, 27 IO16, 28 IO17, 29 IO5, 30 IO18, 31 IO19, 32 NC, 33 IO21, 34 RXD0/IO3, 35 TXD0/IO1, 36 IO22, 37 IO23, 38 GND, 39 GND

## ESP32-WROOM-32UE-R2
designator *  value ESP32-WROOM-32UE-R2  Reference: U
RF Module, ESP32-D0WDR2-V3 SoC, with 2MB PSRAM, Wi-Fi 802.11b/g/n, Bluetooth, BLE, 32-bit, 2.7-3.6V, onboard antenna, SMD; ki_keywords: RF Radio BT ESP ESP32 Espressif external U.FL antenna; ki_fp_filters: ESP32?WROOM?32UE*; Footprint: RF_Module:ESP32-WROOM-32UE; Datasheet: https://www.espressif.com/sites/default/files/documentation/esp32-wroom-32e_esp32-wroom-32ue_datasheet_en.pdf; Description_: RF Module, ESP32-D0WDR2-V3 SoC, with 2MB PSRAM, Wi-Fi 802.11b/g/n, Bluetooth, BLE, 32-bit, 2.7-3.6V, onboard antenna, SMD
pins: 1 GND, 2 VDD, 3 EN, 4 SENSOR_VP, 5 SENSOR_VN, 6 IO34, 7 IO35, 8 IO32, 9 IO33, 10 IO25, 11 IO26, 12 IO27, 13 IO14, 14 IO12, 15 GND, 16 IO13, 17 NC, 18 NC, 19 NC, 20 NC, 21 NC, 22 NC, 23 IO15, 24 IO2, 25 IO0, 26 IO4, 27 NC, 28 IO17, 29 IO5, 30 IO18, 31 IO19, 32 NC, 33 IO21, 34 RXD0/IO3, 35 TXD0/IO1, 36 IO22, 37 IO23, 38 GND, 39 GND

## ESP-07
designator *  value ESP-07  Reference: U
802.11 b/g/n Wi-Fi Module; ki_keywords: 802.11 Wi-Fi; ki_fp_filters: ESP?07*; Footprint: RF_Module:ESP-07; Datasheet: http://wiki.ai-thinker.com/_media/esp8266/esp8266_series_modules_user_manual_v1.1.pdf; Description_: 802.11 b/g/n Wi-Fi Module
pins: 1 ~{{RST}}, 2 ADC, 3 EN, 4 GPIO16, 5 GPIO14, 6 GPIO12, 7 GPIO13, 8 VCC, 9 GND, 10 GPIO15, 11 GPIO2, 12 GPIO0, 13 GPIO4, 14 GPIO5, 15 GPIO3/RXD, 16 GPIO1/TXD

## ESP-12E
designator *  value ESP-12E  Reference: U
802.11 b/g/n Wi-Fi Module; ki_keywords: 802.11 Wi-Fi; ki_fp_filters: ESP?12*; Footprint: RF_Module:ESP-12E; Datasheet: http://wiki.ai-thinker.com/_media/esp8266/esp8266_series_modules_user_manual_v1.1.pdf; Description_: 802.11 b/g/n Wi-Fi Module
pins: 1 ~{{RST}}, 2 ADC, 3 EN, 4 GPIO16, 5 GPIO14, 6 GPIO12, 7 GPIO13, 8 VCC, 9 CS0, 10 MISO, 11 GPIO9, 12 GPIO10, 13 MOSI, 14 SCLK, 15 GND, 16 GPIO15, 17 GPIO2, 18 GPIO0, 19 GPIO4, 20 GPIO5, 21 GPIO3/RXD, 22 GPIO1/TXD

## ESP-12F
designator *  value ESP-12F  Reference: U
802.11 b/g/n Wi-Fi Module; ki_keywords: 802.11 Wi-Fi; ki_fp_filters: ESP?12*; Footprint: RF_Module:ESP-12E; Datasheet: http://wiki.ai-thinker.com/_media/esp8266/esp8266_series_modules_user_manual_v1.1.pdf; Description_: 802.11 b/g/n Wi-Fi Module
pins: 1 ~{{RST}}, 2 ADC, 3 EN, 4 GPIO16, 5 GPIO14, 6 GPIO12, 7 GPIO13, 8 VCC, 9 CS0, 10 MISO, 11 GPIO9, 12 GPIO10, 13 MOSI, 14 SCLK, 15 GND, 16 GPIO15, 17 GPIO2, 18 GPIO0, 19 GPIO4, 20 GPIO5, 21 GPIO3/RXD, 22 GPIO1/TXD

## ESP-WROOM-02
designator *  value ESP-WROOM-02  Reference: U
Wi-Fi Module, ESP8266EX SoC, 32-bit, 802.11b/g/n, WPA/WPA2, 2.7-3.6V, SMD; ki_keywords: RF Radio ESP Espressif; ki_fp_filters: ESP?WROOM?02*; Footprint: RF_Module:ESP-WROOM-02; Datasheet: https://www.espressif.com/sites/default/files/documentation/0c-esp-wroom-02_datasheet_en.pdf; Description_: Wi-Fi Module, ESP8266EX SoC, 32-bit, 802.11b/g/n, WPA/WPA2, 2.7-3.6V, SMD
pins: 1 VDD, 2 EN, 3 IO14, 4 IO12, 5 IO13, 6 IO15, 7 IO2, 8 IO0, 9 GND, 10 IO4, 11 RXD, 12 TXD, 13 GND, 14 IO5, 15 RST, 16 TOUT, 17 IO16, 18 GND, 19 GND

## HT-CT62
designator *  value HT-CT62  Reference: U
LoRa/LoRaWAN node module with ESP32-C3 and SX1262; ki_keywords: LoRa WiFi ESP32 SX1262; ki_fp_filters: *HT?CT62*; Footprint: RF_Module:Heltec_HT-CT62; Datasheet: https://resource.heltec.cn/download/HT-CT62/HT-CT62(Rev1.1).pdf; Description_: LoRa/LoRaWAN node module with ESP32-C3 and SX1262
pins: 1 2.4G_Ant, 2 GND, 3 GPIO7, 4 GPIO6, 5 GPIO5, 6 GPIO4, 7 GPIO3, 8 GPIO2, 9 GPIO1, 10 GPIO0, 11 EN, 12 VDD, 13 GND, 14 GPIO10, 15 GPIO9, 16 GPIO8, 17 GPIO18_DN, 18 GPIO19_DP, 19 GPIO20_RXD, 20 GPIO21_TXD, 21 GND, 22 LoRa_Ant

## iM880A
designator *  value iM880A  Reference: U
IMST Long Range Radio Module; ki_keywords: IOT LoRa; Datasheet: http://www.wireless-solutions.de/images/stories/downloads/Radio%20Modules/iM880A/General_Information/iM880A_Datasheet_V1_1.pdf; Description_: IMST Long Range Radio Module
pins: 1 GND, 2 P1-IO/JTCK/SWCLK, 3 P2-IO/JTMS/SWDIO, 4 P3-IO/JTDO, 5 P4-IO/JTDI, 6 GND, 7 ~{{RST}}, 8 P5-IO/UART-CTS, 9 P6-IO/UART-RTS, 10 NC, 11 GND, 12 P7-IO/SPI-MISO, 13 P8-IO/SPI-MOSI, 14 P9-IO/SPI-CLK, 15 P10-IO/SPI-NSS, 16 GND, 17 VDD, 18 RxD-IO/UART-RX, 19 TxD-IO/UART-TX, 20 P11-IO, 21 P12-IO/I2C-SCL, 22 GND, 23 P13-IO/I2C-SDA, 24 P14-IO/ADC, 25 P15-IO/WKUP, 26 BOOT, 27 GND, 28 NC, 29 P17-IO/ADC, 30 GND, 31 RF, 32 GND

## iM880B
designator *  value iM880B  Reference: U
IMST Long Range Radio Module - LoRa Alliance Certified; ki_keywords: IOT LoRa; Datasheet: http://www.wireless-solutions.de/images/stories/downloads/Radio%20Modules/iM880B/General_Information/iM880B_Datasheet_V1_0.pdf; Description_: IMST Long Range Radio Module - LoRa Alliance Certified
pins: 1 GND, 2 P1-IO/JTCK/SWCLK, 3 P2-IO/JTMS/SWDIO, 4 P3-IO/JTDO, 5 P4-IO/JTDI, 6 GND, 7 ~{{RST}}, 8 P5-IO/UART-CTS, 9 P6-IO/UART-RTS, 10 NC, 11 GND, 12 P7-IO/SPI-MISO, 13 P8-IO/SPI-MOSI, 14 P9-IO/SPI-CLK, 15 P10-IO/SPI-NSS, 16 GND, 17 VDD, 18 RxD-IO/UART-RX, 19 TxD-IO/UART-TX, 20 P11-IO, 21 P12-IO/I2C-SCL, 22 GND, 23 P13-IO/I2C-SDA, 24 P14-IO/ADC, 25 P15-IO/WKUP, 26 BOOT, 27 GND, 28 NC, 29 P17-IO/ADC, 30 GND, 31 RF, 32 GND

## Jadak_Thingmagic_M6e-Nano
designator *  value Jadak_Thingmagic_M6e-Nano  Reference: U
RFID UHF module, 1 antenna port, 27dBm, edge pin connections; ki_keywords: Jadak Thingmagic M6e Nano; ki_fp_filters: *Thingmagic*M6e?Nano*; Footprint: RF_Module:Jadak_Thingmagic_M6e-Nano; Datasheet: https://www.jadaktech.com/product/thingmagic-m6e-nano-uhf-rain-rfid; Description_: RFID UHF module, 1 antenna port, 27dBm, edge pin connections
pins: 1 GND, 2 GND, 3 GND, 4 GND, 5 GND, 6 GND, 7 GND, 8 GND, 9 GND, 10 Vout, 11 EN, 12 GPIO1, 13 GPIO2, 14 GPIO3, 15 GPIO4, 16 Vin, 17 Vin, 18 GND, 19 GND, 20 UART_TX, 21 UART_RX, 22 RFU1, 23 RFU2, 24 RFU3, 25 RFU4, 26 RFU5, 27 RFU6, 28 RFU7, 29 GND, 30 GND, 31 GND, 32 GND, 33 GND, 34 GND, 35 GND, 36 GND, 37 GND, 38 GND, 39 RF, 40 GND, 41 GND

## MDBT42Q-512K
designator *  value MDBT42Q-512K  Reference: U
Multiprotocol BLE/ANT/2.4 GHz/802.15.4 Cortex-M4F SoC, nRF52832 module, ceramic antenna; ki_keywords: MCU ARM BLE ANT 2.4GHz 802.15.4 MDBT42Q; ki_fp_filters: Raytac?MDBT42Q*; Footprint: RF_Module:Raytac_MDBT42Q; Datasheet: https://www.raytac.com/download/index.php?index_id=27; Description_: Multiprotocol BLE/ANT/2.4 GHz/802.15.4 Cortex-M4F SoC, nRF52832 module, ceramic antenna
pins: 1 GND, 2 P0.25, 3 P0.26, 4 P0.27, 5 AIN4/P0.28, 6 AIN5/P0.29, 7 AIN6/P0.30, 8 AIN7/P0.31, 9 DEC4, 10 DCC, 11 VDD, 12 GND, 13 P0.00/XL1, 14 P0.01/XL2, 15 AIN0/P0.02, 16 AIN1/P0.03, 17 AIN2/P0.04, 18 AIN3/P0.05, 19 P0.06, 20 P0.07, 21 P0.08, 22 NFC1/P0.09, 23 NFC2/P0.10, 24 GND, 25 P0.11, 26 P0.12, 27 P0.13, 28 TRACEDATA3/P0.14, 29 TRACEDATA2/P0.15, 30 TRACEDATA1/P0.16, 31 P0.17, 32 TRACEDATA0/P0.18, 33 P0.19, 34 TRACECLK/P0.20, 35 P0.21/~{{RESET}}, 36 SWDCLK, 37 SWDIO, 38 P0.22, 39 GND, 40 P0.24, 41 P0.23

## MDBT50Q-1MV2
designator *  value MDBT50Q-1MV2  Reference: U
Multiprotocol BLE/ANT/2.4 GHz/802.15.4 Cortex-M4F SoC, nRF52840 module; ki_keywords: BLE ANT ZigBee Thread 802.15.4 nRF52840 nordic MDBT50Q; ki_fp_filters: Raytac?MDBT50Q*; Footprint: RF_Module:Raytac_MDBT50Q; Datasheet: https://www.raytac.com/download/index.php?index_id=43; Description_: Multiprotocol BLE/ANT/2.4 GHz/802.15.4 Cortex-M4F SoC, nRF52840 module
pins: 1 GND, 2 GND, 3 P1.10, 4 P1.11, 5 P1.12, 6 P1.13, 7 P1.14, 8 P1.15, 9 P0.03, 10 P0.29, 11 P0.02, 12 P0.31, 13 P0.28, 14 P0.30, 15 GND, 16 P0.27, 17 P0.00, 18 P0.01, 19 P0.26, 20 P0.04, 21 P0.05, 22 P0.06, 23 P0.07, 24 P0.08, 25 P1.08, 26 P1.09, 27 P0.11, 28 VDD, 29 P0.12, 30 VDDH, 31 DCCH, 32 VBUS, 33 GND, 34 D-, 35 D+, 36 P0.14, 37 P0.13, 38 P0.16, 39 P0.15, 40 P0.18, 41 P0.17, 42 P0.19, 43 P0.21, 44 P0.20, 45 P0.23, 46 P0.22, 47 P1.00, 48 P0.24, 49 P0.25, 50 P1.02, 51 SWDIO, 52 P0.09, 53 SWDCLK, 54 P0.10, 55 GND, 56 P1.04, 57 P1.06, 58 P1.07, 59 P1.05, 60 P1.03, 61 P1.01

## MDBT50Q-512K
designator *  value MDBT50Q-512K  Reference: U
Multiprotocol BLE/ANT/2.4 GHz/802.15.4 Cortex-M4F SoC, nRF52833 module; ki_keywords: MCU, ARM, BLE, ANT, 2.4GHz, 802.15.4 MDBT50Q; ki_fp_filters: Raytac?MDBT50Q*; Footprint: RF_Module:Raytac_MDBT50Q; Datasheet: https://www.raytac.com/download/index.php?index_id=46; Description_: Multiprotocol BLE/ANT/2.4 GHz/802.15.4 Cortex-M4F SoC, nRF52833 module
pins: 1 GND, 2 GND, 3 P0.25, 4 NC, 5 P0.23, 6 P1.05, 7 P1.03, 8 P0.19, 9 P0.03, 10 P0.29, 11 P0.02, 12 P0.31, 13 P0.28, 14 P0.30, 15 GND, 16 P0.27, 17 P0.00, 18 P0.01, 19 P0.26, 20 P0.04, 21 P0.05, 22 P0.06, 23 P0.07, 24 P0.08, 25 P1.08, 26 P1.09, 27 P0.11, 28 VDD, 29 P0.12, 30 VDDH, 31 NC, 32 VBUS, 33 GND, 34 D-, 35 D+, 36 P0.14, 37 P0.13, 38 P0.16, 39 P0.15, 40 P0.18, 41 P0.17, 42 P0.19, 43 P0.21, 44 P0.20, 45 NC, 46 P0.22, 47 P1.00, 48 P0.24, 49 NC, 50 P1.02, 51 SWDIO, 52 P0.09, 53 SWDCLK, 54 P0.10, 55 GND, 56 P1.04, 57 P1.06, 58 P1.07, 59 NC, 60 NC, 61 P1.01

## MDBT50Q-P1MV2
designator *  value MDBT50Q-P1MV2  Reference: U
Multiprotocol BLE/ANT/2.4 GHz/802.15.4 Cortex-M4F SoC, nRF52840 module; ki_keywords: BLE ANT ZigBee Thread 802.15.4 nRF52840 nordic MDBT50Q; ki_fp_filters: Raytac?MDBT50Q*; Footprint: RF_Module:Raytac_MDBT50Q; Datasheet: https://www.raytac.com/download/index.php?index_id=43; Description_: Multiprotocol BLE/ANT/2.4 GHz/802.15.4 Cortex-M4F SoC, nRF52840 module
pins: 1 GND, 2 GND, 3 P1.10, 4 P1.11, 5 P1.12, 6 P1.13, 7 P1.14, 8 P1.15, 9 P0.03, 10 P0.29, 11 P0.02, 12 P0.31, 13 P0.28, 14 P0.30, 15 GND, 16 P0.27, 17 P0.00, 18 P0.01, 19 P0.26, 20 P0.04, 21 P0.05, 22 P0.06, 23 P0.07, 24 P0.08, 25 P1.08, 26 P1.09, 27 P0.11, 28 VDD, 29 P0.12, 30 VDDH, 31 DCCH, 32 VBUS, 33 GND, 34 D-, 35 D+, 36 P0.14, 37 P0.13, 38 P0.16, 39 P0.15, 40 P0.18, 41 P0.17, 42 P0.19, 43 P0.21, 44 P0.20, 45 P0.23, 46 P0.22, 47 P1.00, 48 P0.24, 49 P0.25, 50 P1.02, 51 SWDIO, 52 P0.09, 53 SWDCLK, 54 P0.10, 55 GND, 56 P1.04, 57 P1.06, 58 P1.07, 59 P1.05, 60 P1.03, 61 P1.01

## MDBT50Q-P512K
designator *  value MDBT50Q-P512K  Reference: U
Multiprotocol BLE/ANT/2.4 GHz/802.15.4 Cortex-M4F SoC, nRF52833 module; ki_keywords: MCU, ARM, BLE, ANT, 2.4GHz, 802.15.4 MDBT50Q; ki_fp_filters: Raytac?MDBT50Q*; Footprint: RF_Module:Raytac_MDBT50Q; Datasheet: https://www.raytac.com/download/index.php?index_id=46; Description_: Multiprotocol BLE/ANT/2.4 GHz/802.15.4 Cortex-M4F SoC, nRF52833 module
pins: 1 GND, 2 GND, 3 P0.25, 4 NC, 5 P0.23, 6 P1.05, 7 P1.03, 8 P0.19, 9 P0.03, 10 P0.29, 11 P0.02, 12 P0.31, 13 P0.28, 14 P0.30, 15 GND, 16 P0.27, 17 P0.00, 18 P0.01, 19 P0.26, 20 P0.04, 21 P0.05, 22 P0.06, 23 P0.07, 24 P0.08, 25 P1.08, 26 P1.09, 27 P0.11, 28 VDD, 29 P0.12, 30 VDDH, 31 NC, 32 VBUS, 33 GND, 34 D-, 35 D+, 36 P0.14, 37 P0.13, 38 P0.16, 39 P0.15, 40 P0.18, 41 P0.17, 42 P0.19, 43 P0.21, 44 P0.20, 45 NC, 46 P0.22, 47 P1.00, 48 P0.24, 49 NC, 50 P1.02, 51 SWDIO, 52 P0.09, 53 SWDCLK, 54 P0.10, 55 GND, 56 P1.04, 57 P1.06, 58 P1.07, 59 NC, 60 NC, 61 P1.01

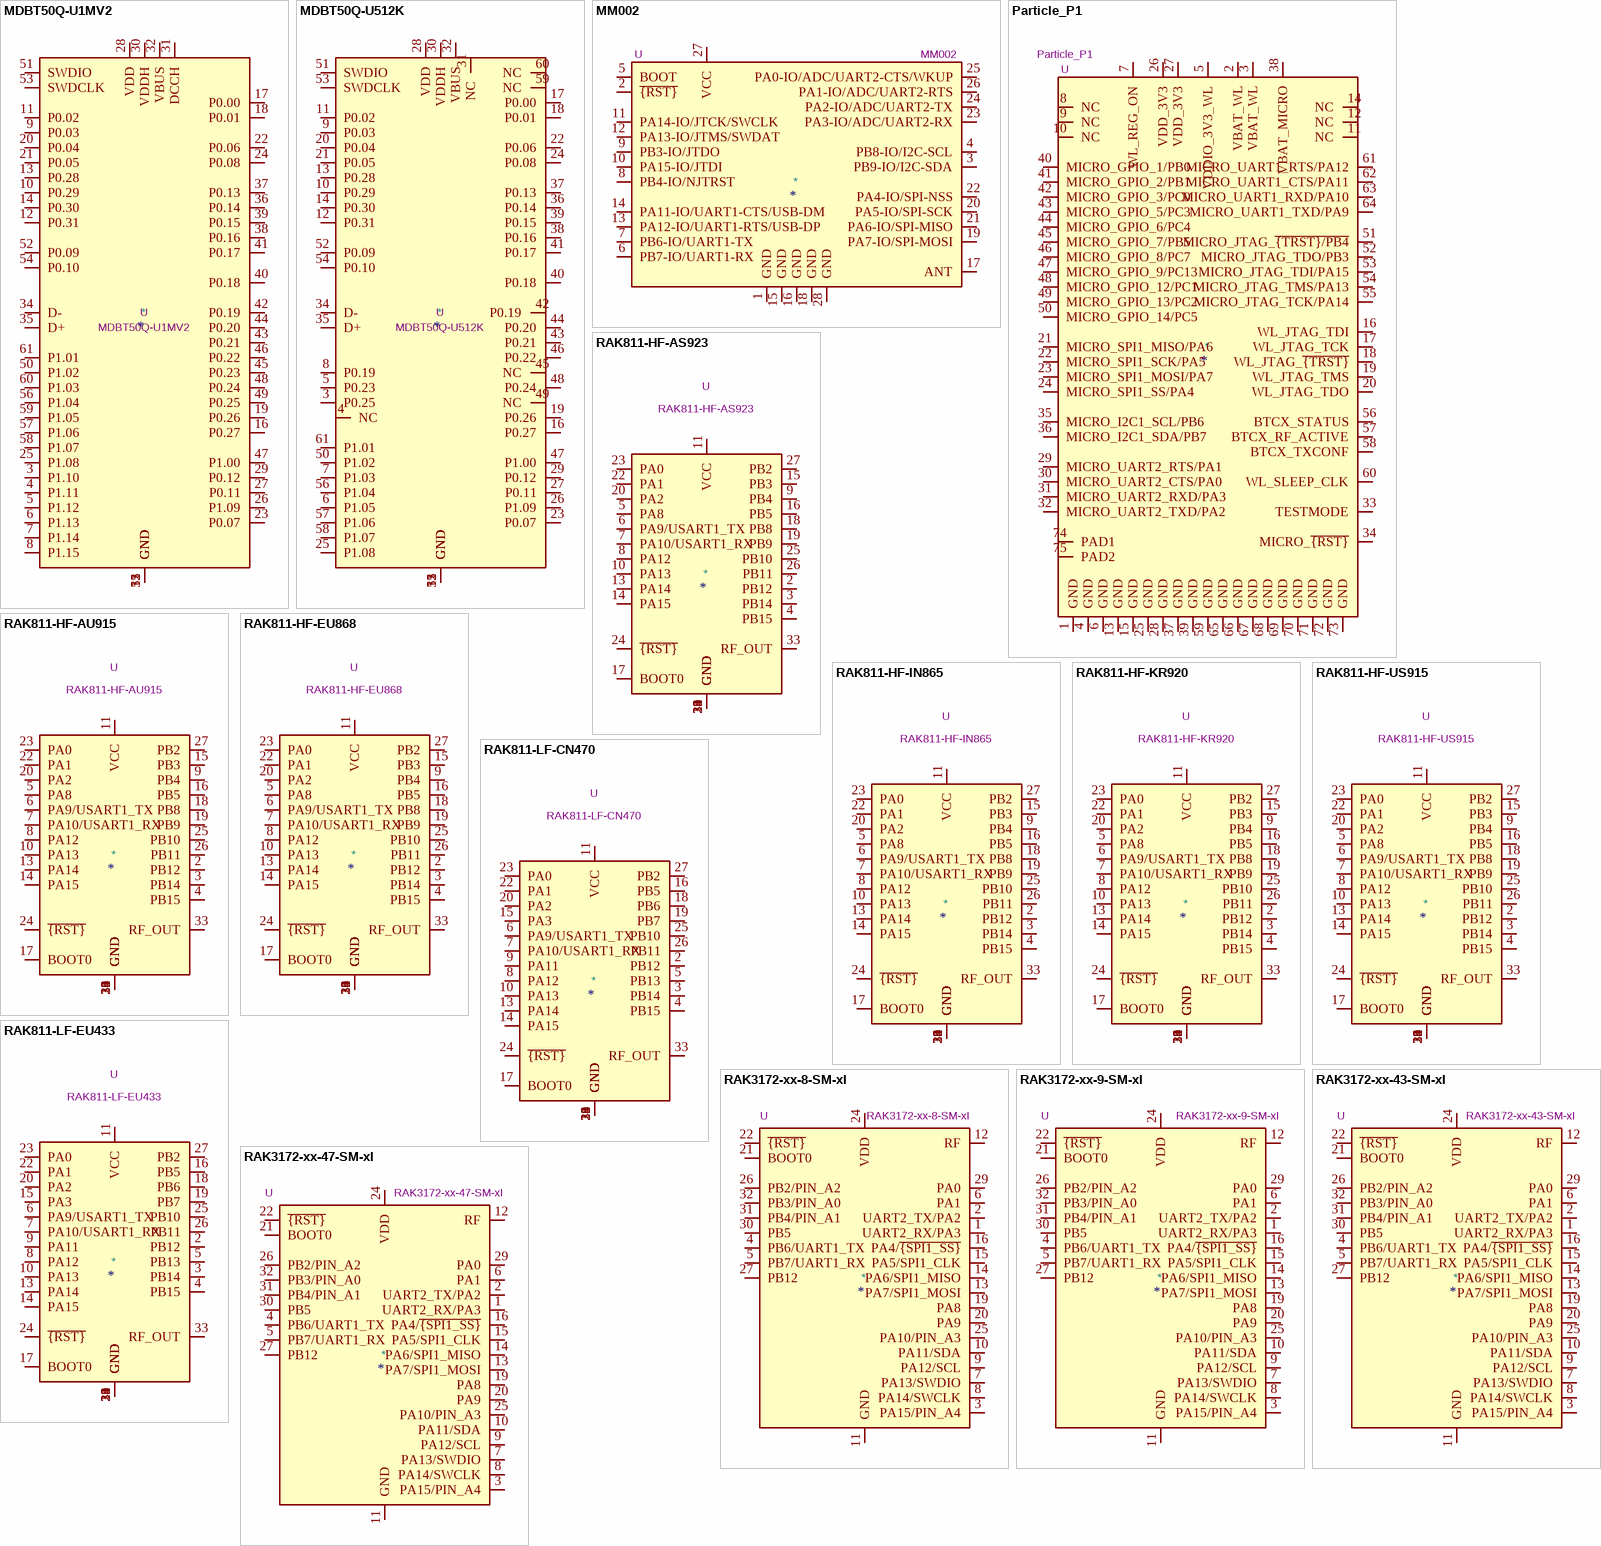
[diagram p3: symbols MDBT50Q-U1MV2 to RAK3172-xx-47-SM-xI]

## MDBT50Q-U1MV2
designator *  value MDBT50Q-U1MV2  Reference: U
Multiprotocol BLE/ANT/2.4 GHz/802.15.4 Cortex-M4F SoC, nRF52840 module; ki_keywords: BLE ANT ZigBee Thread 802.15.4 nRF52840 nordic MDBT50Q; ki_fp_filters: Raytac?MDBT50Q*; Footprint: RF_Module:Raytac_MDBT50Q; Datasheet: https://www.raytac.com/download/index.php?index_id=43; Description_: Multiprotocol BLE/ANT/2.4 GHz/802.15.4 Cortex-M4F SoC, nRF52840 module
pins: 1 GND, 2 GND, 3 P1.10, 4 P1.11, 5 P1.12, 6 P1.13, 7 P1.14, 8 P1.15, 9 P0.03, 10 P0.29, 11 P0.02, 12 P0.31, 13 P0.28, 14 P0.30, 15 GND, 16 P0.27, 17 P0.00, 18 P0.01, 19 P0.26, 20 P0.04, 21 P0.05, 22 P0.06, 23 P0.07, 24 P0.08, 25 P1.08, 26 P1.09, 27 P0.11, 28 VDD, 29 P0.12, 30 VDDH, 31 DCCH, 32 VBUS, 33 GND, 34 D-, 35 D+, 36 P0.14, 37 P0.13, 38 P0.16, 39 P0.15, 40 P0.18, 41 P0.17, 42 P0.19, 43 P0.21, 44 P0.20, 45 P0.23, 46 P0.22, 47 P1.00, 48 P0.24, 49 P0.25, 50 P1.02, 51 SWDIO, 52 P0.09, 53 SWDCLK, 54 P0.10, 55 GND, 56 P1.04, 57 P1.06, 58 P1.07, 59 P1.05, 60 P1.03, 61 P1.01

## MDBT50Q-U512K
designator *  value MDBT50Q-U512K  Reference: U
Multiprotocol BLE/ANT/2.4 GHz/802.15.4 Cortex-M4F SoC, nRF52833 module; ki_keywords: MCU, ARM, BLE, ANT, 2.4GHz, 802.15.4 MDBT50Q; ki_fp_filters: Raytac?MDBT50Q*; Footprint: RF_Module:Raytac_MDBT50Q; Datasheet: https://www.raytac.com/download/index.php?index_id=46; Description_: Multiprotocol BLE/ANT/2.4 GHz/802.15.4 Cortex-M4F SoC, nRF52833 module
pins: 1 GND, 2 GND, 3 P0.25, 4 NC, 5 P0.23, 6 P1.05, 7 P1.03, 8 P0.19, 9 P0.03, 10 P0.29, 11 P0.02, 12 P0.31, 13 P0.28, 14 P0.30, 15 GND, 16 P0.27, 17 P0.00, 18 P0.01, 19 P0.26, 20 P0.04, 21 P0.05, 22 P0.06, 23 P0.07, 24 P0.08, 25 P1.08, 26 P1.09, 27 P0.11, 28 VDD, 29 P0.12, 30 VDDH, 31 NC, 32 VBUS, 33 GND, 34 D-, 35 D+, 36 P0.14, 37 P0.13, 38 P0.16, 39 P0.15, 40 P0.18, 41 P0.17, 42 P0.19, 43 P0.21, 44 P0.20, 45 NC, 46 P0.22, 47 P1.00, 48 P0.24, 49 NC, 50 P1.02, 51 SWDIO, 52 P0.09, 53 SWDCLK, 54 P0.10, 55 GND, 56 P1.04, 57 P1.06, 58 P1.07, 59 NC, 60 NC, 61 P1.01

## MM002
designator *  value MM002  Reference: U
NEMEUS Modem dual-mode LoRa/SIGFOX; ki_keywords: IOT LoRa SIGFOX; Datasheet: http://www.nemeus.fr/resources/uploads/2015/04/MM002-xx-EU_datasheet_v0.11.pdf; Description_: NEMEUS Modem dual-mode LoRa/SIGFOX
pins: 1 GND, 2 ~{{RST}}, 3 PB9-IO/I2C-SDA, 4 PB8-IO/I2C-SCL, 5 BOOT, 6 PB7-IO/UART1-RX, 7 PB6-IO/UART1-TX, 8 PB4-IO/NJTRST, 9 PB3-IO/JTDO, 10 PA15-IO/JTDI, 11 PA14-IO/JTCK/SWCLK, 12 PA13-IO/JTMS/SWDAT, 13 PA12-IO/UART1-RTS/USB-DP, 14 PA11-IO/UART1-CTS/USB-DM, 15 GND, 16 GND, 17 ANT, 18 GND, 19 PA7-IO/SPI-MOSI, 20 PA5-IO/SPI-SCK, 21 PA6-IO/SPI-MISO, 22 PA4-IO/SPI-NSS, 23 PA3-IO/ADC/UART2-RX, 24 PA2-IO/ADC/UART2-TX, 25 PA0-IO/ADC/UART2-CTS/WKUP, 26 PA1-IO/ADC/UART2-RTS, 27 VCC, 28 GND

## Particle_P1
designator *  value Particle_P1  Reference: U
Wi-Fi module, 1MB flash, 128KB RAM; ki_fp_filters: Particle*P1*; Footprint: RF_Module:Particle_P1; Datasheet: https://docs.particle.io/datasheets/p1-datasheet/; Description_: Wi-Fi module, 1MB flash, 128KB RAM; ki_keywords: Wi-Fi module
pins: 1 GND, 2 VBAT_WL, 3 VBAT_WL, 4 GND, 5 VDDIO_3V3_WL, 6 GND, 7 WL_REG_ON, 8 NC, 9 NC, 10 NC, 11 NC, 12 NC, 13 GND, 14 NC, 15 GND, 16 WL_JTAG_TDI, 17 WL_JTAG_TCK, 18 WL_JTAG_~{{TRST}}, 19 WL_JTAG_TMS, 20 WL_JTAG_TDO, 21 MICRO_SPI1_MISO/PA6, 22 MICRO_SPI1_SCK/PA5, 23 MICRO_SPI1_MOSI/PA7, 24 MICRO_SPI1_SS/PA4, 25 GND, 26 VDD_3V3, 27 VDD_3V3, 28 GND, 29 MICRO_UART2_RTS/PA1, 30 MICRO_UART2_CTS/PA0, 31 MICRO_UART2_RXD/PA3, 32 MICRO_UART2_TXD/PA2, 33 TESTMODE, 34 MICRO_~{{RST}}, 35 MICRO_I2C1_SCL/PB6, 36 MICRO_I2C1_SDA/PB7, 37 GND, 38 VBAT_MICRO, 39 GND, 40 MICRO_GPIO_1/PB0, 41 MICRO_GPIO_2/PB1, 42 MICRO_GPIO_3/PC0, 43 MICRO_GPIO_5/PC3, 44 MICRO_GPIO_6/PC4, 45 MICRO_GPIO_7/PB5, 46 MICRO_GPIO_8/PC7, 47 MICRO_GPIO_9/PC13, 48 MICRO_GPIO_12/PC1, 49 MICRO_GPIO_13/PC2, 50 MICRO_GPIO_14/PC5, 51 MICRO_JTAG_~{{TRST}/PB4}, 52 MICRO_JTAG_TDO/PB3, 53 MICRO_JTAG_TDI/PA15, 54 MICRO_JTAG_TMS/PA13, 55 MICRO_JTAG_TCK/PA14, 56 BTCX_STATUS, 57 BTCX_RF_ACTIVE, 58 BTCX_TXCONF, 59 GND, 60 WL_SLEEP_CLK, 61 MICRO_UART1_RTS/PA12, 62 MICRO_UART1_CTS/PA11, 63 MICRO_UART1_RXD/PA10, 64 MICRO_UART1_TXD/PA9, 65 GND, 66 GND, 67 GND, 68 GND, 69 GND, 70 GND, 71 GND, 72 GND, 73 GND, 74 PAD1, 75 PAD2

## RAK811-HF-AS923
designator *  value RAK811-HF-AS923  Reference: U
LoRa Module, STM32L151, AS923, RAKwireless; ki_keywords: IoT LoRa LoRaWAN RF; ki_fp_filters: RAK811*; Footprint: RF_Module:RAK811; Datasheet: https://downloads.rakwireless.com/LoRa/RAK811/Hardware_Specification/RAK811_LoRa_Module_Datasheet_V1.4.pdf; Description_: LoRa Module, STM32L151, AS923, RAKwireless
pins: 1 GND, 2 PB12, 3 PB14, 4 PB15, 5 PA8, 6 PA9/USART1_TX, 7 PA10/USART1_RX, 8 PA12, 9 PB4, 10 PA13, 11 VCC, 12 GND, 13 PA14, 14 PA15, 15 PB3, 16 PB5, 17 BOOT0, 18 PB8, 19 PB9, 20 PA2, 21 GND, 22 PA1, 23 PA0, 24 ~{{RST}}, 25 PB10, 26 PB11, 27 PB2, 28 GND, 29 GND, 30 GND, 31 GND, 32 GND, 33 RF_OUT, 34 GND

## RAK811-HF-AU915
designator *  value RAK811-HF-AU915  Reference: U
LoRa Module, STM32L151, AU915, RAKwireless; ki_keywords: IoT LoRa LoRaWAN RF; ki_fp_filters: RAK811*; Footprint: RF_Module:RAK811; Datasheet: https://downloads.rakwireless.com/LoRa/RAK811/Hardware_Specification/RAK811_LoRa_Module_Datasheet_V1.4.pdf; Description_: LoRa Module, STM32L151, AU915, RAKwireless
pins: 1 GND, 2 PB12, 3 PB14, 4 PB15, 5 PA8, 6 PA9/USART1_TX, 7 PA10/USART1_RX, 8 PA12, 9 PB4, 10 PA13, 11 VCC, 12 GND, 13 PA14, 14 PA15, 15 PB3, 16 PB5, 17 BOOT0, 18 PB8, 19 PB9, 20 PA2, 21 GND, 22 PA1, 23 PA0, 24 ~{{RST}}, 25 PB10, 26 PB11, 27 PB2, 28 GND, 29 GND, 30 GND, 31 GND, 32 GND, 33 RF_OUT, 34 GND

## RAK811-HF-EU868
designator *  value RAK811-HF-EU868  Reference: U
LoRa Module, STM32L151, EU868, RAKwireless; ki_keywords: IoT LoRa LoRaWAN RF; ki_fp_filters: RAK811*; Footprint: RF_Module:RAK811; Datasheet: https://downloads.rakwireless.com/LoRa/RAK811/Hardware_Specification/RAK811_LoRa_Module_Datasheet_V1.4.pdf; Description_: LoRa Module, STM32L151, EU868, RAKwireless
pins: 1 GND, 2 PB12, 3 PB14, 4 PB15, 5 PA8, 6 PA9/USART1_TX, 7 PA10/USART1_RX, 8 PA12, 9 PB4, 10 PA13, 11 VCC, 12 GND, 13 PA14, 14 PA15, 15 PB3, 16 PB5, 17 BOOT0, 18 PB8, 19 PB9, 20 PA2, 21 GND, 22 PA1, 23 PA0, 24 ~{{RST}}, 25 PB10, 26 PB11, 27 PB2, 28 GND, 29 GND, 30 GND, 31 GND, 32 GND, 33 RF_OUT, 34 GND

## RAK811-HF-IN865
designator *  value RAK811-HF-IN865  Reference: U
LoRa Module, STM32L151, IN865, RAKwireless; ki_keywords: IoT LoRa LoRaWAN RF; ki_fp_filters: RAK811*; Footprint: RF_Module:RAK811; Datasheet: https://downloads.rakwireless.com/LoRa/RAK811/Hardware_Specification/RAK811_LoRa_Module_Datasheet_V1.4.pdf; Description_: LoRa Module, STM32L151, IN865, RAKwireless
pins: 1 GND, 2 PB12, 3 PB14, 4 PB15, 5 PA8, 6 PA9/USART1_TX, 7 PA10/USART1_RX, 8 PA12, 9 PB4, 10 PA13, 11 VCC, 12 GND, 13 PA14, 14 PA15, 15 PB3, 16 PB5, 17 BOOT0, 18 PB8, 19 PB9, 20 PA2, 21 GND, 22 PA1, 23 PA0, 24 ~{{RST}}, 25 PB10, 26 PB11, 27 PB2, 28 GND, 29 GND, 30 GND, 31 GND, 32 GND, 33 RF_OUT, 34 GND

## RAK811-HF-KR920
designator *  value RAK811-HF-KR920  Reference: U
LoRa Module, STM32L151, KR920, RAKwireless; ki_keywords: IoT LoRa LoRaWAN RF; ki_fp_filters: RAK811*; Footprint: RF_Module:RAK811; Datasheet: https://downloads.rakwireless.com/LoRa/RAK811/Hardware_Specification/RAK811_LoRa_Module_Datasheet_V1.4.pdf; Description_: LoRa Module, STM32L151, KR920, RAKwireless
pins: 1 GND, 2 PB12, 3 PB14, 4 PB15, 5 PA8, 6 PA9/USART1_TX, 7 PA10/USART1_RX, 8 PA12, 9 PB4, 10 PA13, 11 VCC, 12 GND, 13 PA14, 14 PA15, 15 PB3, 16 PB5, 17 BOOT0, 18 PB8, 19 PB9, 20 PA2, 21 GND, 22 PA1, 23 PA0, 24 ~{{RST}}, 25 PB10, 26 PB11, 27 PB2, 28 GND, 29 GND, 30 GND, 31 GND, 32 GND, 33 RF_OUT, 34 GND

## RAK811-HF-US915
designator *  value RAK811-HF-US915  Reference: U
LoRa Module, STM32L151, US915, RAKwireless; ki_keywords: IoT LoRa LoRaWAN RF; ki_fp_filters: RAK811*; Footprint: RF_Module:RAK811; Datasheet: https://downloads.rakwireless.com/LoRa/RAK811/Hardware_Specification/RAK811_LoRa_Module_Datasheet_V1.4.pdf; Description_: LoRa Module, STM32L151, US915, RAKwireless
pins: 1 GND, 2 PB12, 3 PB14, 4 PB15, 5 PA8, 6 PA9/USART1_TX, 7 PA10/USART1_RX, 8 PA12, 9 PB4, 10 PA13, 11 VCC, 12 GND, 13 PA14, 14 PA15, 15 PB3, 16 PB5, 17 BOOT0, 18 PB8, 19 PB9, 20 PA2, 21 GND, 22 PA1, 23 PA0, 24 ~{{RST}}, 25 PB10, 26 PB11, 27 PB2, 28 GND, 29 GND, 30 GND, 31 GND, 32 GND, 33 RF_OUT, 34 GND

## RAK811-LF-CN470
designator *  value RAK811-LF-CN470  Reference: U
LoRa Module, STM32L151, CN470, RAKwireless; ki_keywords: IoT LoRa LoRaWAN RF; ki_fp_filters: RAK811*; Footprint: RF_Module:RAK811; Datasheet: https://downloads.rakwireless.com/LoRa/RAK811/Hardware_Specification/RAK811_LoRa_Module_Datasheet_V1.4.pdf; Description_: LoRa Module, STM32L151, CN470, RAKwireless
pins: 1 GND, 2 PB12, 3 PB14, 4 PB15, 5 PB13, 6 PA9/USART1_TX, 7 PA10/USART1_RX, 8 PA12, 9 PA11, 10 PA13, 11 VCC, 12 GND, 13 PA14, 14 PA15, 15 PA3, 16 PB5, 17 BOOT0, 18 PB6, 19 PB7, 20 PA2, 21 GND, 22 PA1, 23 PA0, 24 ~{{RST}}, 25 PB10, 26 PB11, 27 PB2, 28 GND, 29 GND, 30 GND, 31 GND, 32 GND, 33 RF_OUT, 34 GND

## RAK811-LF-EU433
designator *  value RAK811-LF-EU433  Reference: U
LoRa Module, STM32L151, EU433, RAKwireless; ki_keywords: IoT LoRa LoRaWAN RF; ki_fp_filters: RAK811*; Footprint: RF_Module:RAK811; Datasheet: https://downloads.rakwireless.com/LoRa/RAK811/Hardware_Specification/RAK811_LoRa_Module_Datasheet_V1.4.pdf; Description_: LoRa Module, STM32L151, EU433, RAKwireless
pins: 1 GND, 2 PB12, 3 PB14, 4 PB15, 5 PB13, 6 PA9/USART1_TX, 7 PA10/USART1_RX, 8 PA12, 9 PA11, 10 PA13, 11 VCC, 12 GND, 13 PA14, 14 PA15, 15 PA3, 16 PB5, 17 BOOT0, 18 PB6, 19 PB7, 20 PA2, 21 GND, 22 PA1, 23 PA0, 24 ~{{RST}}, 25 PB10, 26 PB11, 27 PB2, 28 GND, 29 GND, 30 GND, 31 GND, 32 GND, 33 RF_OUT, 34 GND

## RAK3172-xx-8-SM-xI
designator *  value RAK3172-xx-8-SM-xI  Reference: U
LoRa Module, STM32WLE5, RU864/IN865/EU868, RAKwireless; ki_keywords: IoT LoRa LoRaWAN RF; ki_fp_filters: RAK3172*; Footprint: RF_Module:RAK3172; Datasheet: https://docs.rakwireless.com/Product-Categories/WisDuo/RAK3172-Module/Datasheet/; Description_: LoRa Module, STM32WLE5, RU864/IN865/EU868, RAKwireless
pins: 1 UART2_RX/PA3, 2 UART2_TX/PA2, 3 PA15/PIN_A4, 4 PB6/UART1_TX, 5 PB7/UART1_RX, 6 PA1, 7 PA13/SWDIO, 8 PA14/SWCLK, 9 PA12/SCL, 10 PA11/SDA, 11 GND, 12 RF, 13 PA7/SPI1_MOSI, 14 PA6/SPI1_MISO, 15 PA5/SPI1_CLK, 16 PA4/~{{SPI1_SS}}, 17 GND hidden, 18 GND hidden, 19 PA8, 20 PA9, 21 BOOT0, 22 ~{{RST}}, 23 GND hidden, 24 VDD, 25 PA10/PIN_A3, 26 PB2/PIN_A2, 27 PB12, 28 GND hidden, 29 PA0, 30 PB5, 31 PB4/PIN_A1, 32 PB3/PIN_A0

## RAK3172-xx-9-SM-xI
designator *  value RAK3172-xx-9-SM-xI  Reference: U
LoRa Module, STM32WLE5, US915/AU915/KR920/AS923, RAKwireless; ki_keywords: IoT LoRa LoRaWAN RF; ki_fp_filters: RAK3172*; Footprint: RF_Module:RAK3172; Datasheet: https://docs.rakwireless.com/product-categories/wisduo/rak3172-module/datasheet; Description_: LoRa Module, STM32WLE5, US915/AU915/KR920/AS923, RAKwireless
pins: 1 UART2_RX/PA3, 2 UART2_TX/PA2, 3 PA15/PIN_A4, 4 PB6/UART1_TX, 5 PB7/UART1_RX, 6 PA1, 7 PA13/SWDIO, 8 PA14/SWCLK, 9 PA12/SCL, 10 PA11/SDA, 11 GND, 12 RF, 13 PA7/SPI1_MOSI, 14 PA6/SPI1_MISO, 15 PA5/SPI1_CLK, 16 PA4/~{{SPI1_SS}}, 17 GND hidden, 18 GND hidden, 19 PA8, 20 PA9, 21 BOOT0, 22 ~{{RST}}, 23 GND hidden, 24 VDD, 25 PA10/PIN_A3, 26 PB2/PIN_A2, 27 PB12, 28 GND hidden, 29 PA0, 30 PB5, 31 PB4/PIN_A1, 32 PB3/PIN_A0